# Altium integrated library Xilinx XC4000.IntLib: 294 symbols (part 16 of 21)
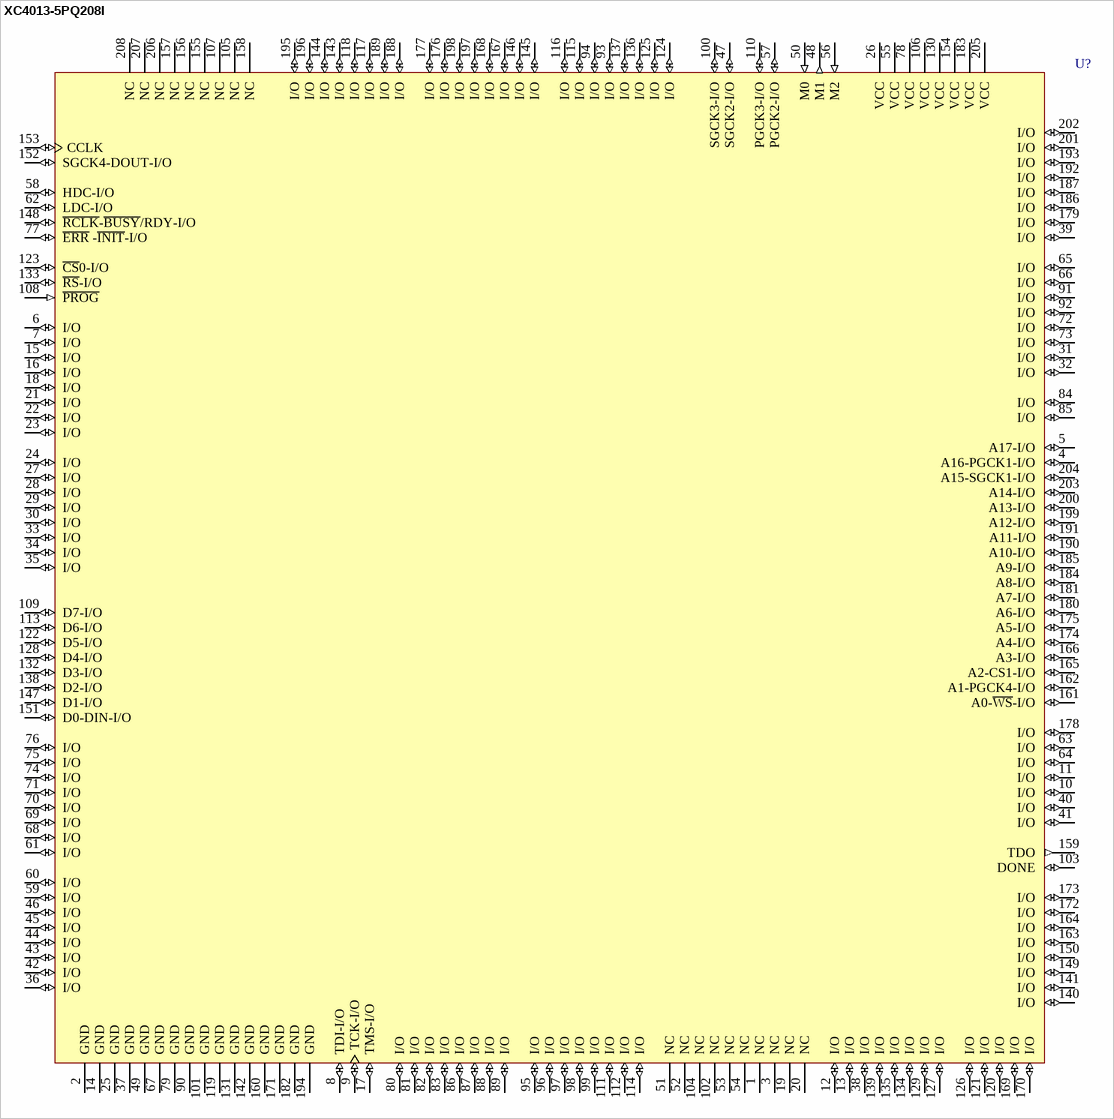
[diagram p244: symbol XC4013-5PQ208I]

## XC4013-5PQ208I
designator U?
Logic Cell Array, with 158 I/O Pins, 208-Pin PQFP, Industrial Grade; ComponentAvailability: Not for New Design; Published: 8-Jun-2000; LatestRevisionDate: 13-Apr-2006; LatestRevisionNote: IPC-7351 Footprint Added.; DatasheetVersion: 1994; PackageVersion: ver1.2, Jun-2004; PackageReference: PQ208; Publisher: Altium Limited; PackageDescription: 208-Pin Plastic Quad Flat Pack (PQ208); Code_JEDEC: MS-029-FA-1; ComponentLink1Description: Manufacturer Link; ComponentLink1URL: http://www.xilinx.com/; ComponentLink2Description: Discontinuation Notice; ComponentLink2URL: http://direct.xilinx.com/bvdocs/notifications/pdn2002-03.pdf
footprint PQ208_N (Shrink QFP, 208-Leads, Body 28x28mm, Pitch 0.5mm, IPC Medium Density)
footprint PQ208_L (Shrink QFP, 208-Leads, Body 28x28mm, Pitch 0.5mm, IPC High Density)
footprint PQ208_M (Shrink QFP, 208-Leads, Body 28x28mm, Pitch 0.5mm, IPC Low Density)
3D model XC4013-PQ208 (208-Pin Plastic Quad Flat Pack (PQ208))
pins: 1 NC, 2 GND (power), 3 NC, 4 A16-PGCK1-I/O (io), 5 A17-I/O (io), 6 I/O (io), 7 I/O (io), 8 TDI-I/O (io), 9 TCK-I/O (io), 10 I/O (io), 11 I/O (io), 12 I/O (io), 13 I/O (io), 14 GND (power), 15 I/O (io), 16 I/O (io), 17 TMS-I/O (io), 18 I/O (io), 19 NC, 20 NC, 21 I/O (io), 22 I/O (io), 23 I/O (io), 24 I/O (io), 25 GND (power), 26 VCC (power), 27 I/O (io), 28 I/O (io), 29 I/O (io), 30 I/O (io), 31 I/O (io), 32 I/O (io), 33 I/O (io), 34 I/O (io), 35 I/O (io), 36 I/O (io), 37 GND (power), 38 I/O (io), 39 I/O (io), 40 I/O (io), 41 I/O (io), 42 I/O (io), 43 I/O (io), 44 I/O (io), 45 I/O (io), 46 I/O (io), 47 SGCK2-I/O (io), 48 M1 (out), 49 GND (power), 50 M0 (in), 51 NC, 52 NC, 53 NC, 54 NC, 55 VCC (power), 56 M2 (in), 57 PGCK2-I/O (io), 58 HDC-I/O (io), 59 I/O (io), 60 I/O (io), 61 I/O (io), 62 LDC-I/O (io), 63 I/O (io), 64 I/O (io), 65 I/O (io), 66 I/O (io), 67 GND (power), 68 I/O (io), 69 I/O (io), 70 I/O (io), 71 I/O (io), 72 I/O (io), 73 I/O (io), 74 I/O (io), 75 I/O (io), 76 I/O (io), 77 ~{ERR} -~{INIT}-I/O (io), 78 VCC (power), 79 GND (power), 80 I/O (io), 81 I/O (io), 82 I/O (io), 83 I/O (io), 84 I/O (io), 85 I/O (io), 86 I/O (io), 87 I/O (io), 88 I/O (io), 89 I/O (io), 90 GND (power), 91 I/O (io), 92 I/O (io), 93 I/O (io), 94 I/O (io), 95 I/O (io), 96 I/O (io), 97 I/O (io), 98 I/O (io), 99 I/O (io), 100 SGCK3-I/O (io), 101 GND (power), 102 NC, 103 DONE (io), 104 NC, 105 NC, 106 VCC (power), 107 NC, 108 ~{PROG} (in), 109 D7-I/O (io), 110 PGCK3-I/O (io), 111 I/O (io), 112 I/O (io), 113 D6-I/O (io), 114 I/O (io), 115 I/O (io), 116 I/O (io), 117 I/O (io), 118 I/O (io), 119 GND (power), 120 I/O (io), 121 I/O (io), 122 D5-I/O (io), 123 ~{CS}0-I/O (io), 124 I/O (io), 125 I/O (io), 126 I/O (io), 127 I/O (io), 128 D4-I/O (io), 129 I/O (io), 130 VCC (power), 131 GND (power), 132 D3-I/O (io), 133 ~{RS}-I/O (io), 134 I/O (io), 135 I/O (io), 136 I/O (io), 137 I/O (io), 138 D2-I/O (io), 139 I/O (io), 140 I/O (io), 141 I/O (io), 142 GND (power), 143 I/O (io), 144 I/O (io), 145 I/O (io), 146 I/O (io), 147 D1-I/O (io), 148 ~{RCLK}-~{BUSY}/RDY-I/O (io), 149 I/O (io), 150 I/O (io), 151 D0-DIN-I/O (io), 152 SGCK4-DOUT-I/O (io), 153 CCLK (io), 154 VCC (power), 155 NC, 156 NC, 157 NC, 158 NC, 159 TDO (out), 160 GND (power), 161 A0-~{WS}-I/O (io), 162 A1-PGCK4-I/O (io), 163 I/O (io), 164 I/O (io), 165 A2-CS1-I/O (io), 166 A3-I/O (io), 167 I/O (io), 168 I/O (io), 169 I/O (io), 170 I/O (io), 171 GND (power), 172 I/O (io), 173 I/O (io), 174 A4-I/O (io), 175 A5-I/O (io), 176 I/O (io), 177 I/O (io), 178 I/O (io), 179 I/O (io), 180 A6-I/O (io), 181 A7-I/O (io), 182 GND (power), 183 VCC (power), 184 A8-I/O (io), 185 A9-I/O (io), 186 I/O (io), 187 I/O (io), 188 I/O (io), 189 I/O (io), 190 A10-I/O (io), 191 A11-I/O (io), 192 I/O (io), 193 I/O (io), 194 GND (power), 195 I/O (io), 196 I/O (io), 197 I/O (io), 198 I/O (io), 199 A12-I/O (io), 200 A13-I/O (io), 201 I/O (io), 202 I/O (io), 203 A14-I/O (io), 204 A15-SGCK1-I/O (io), 205 VCC (power), 206 NC, 207 NC, 208 NC

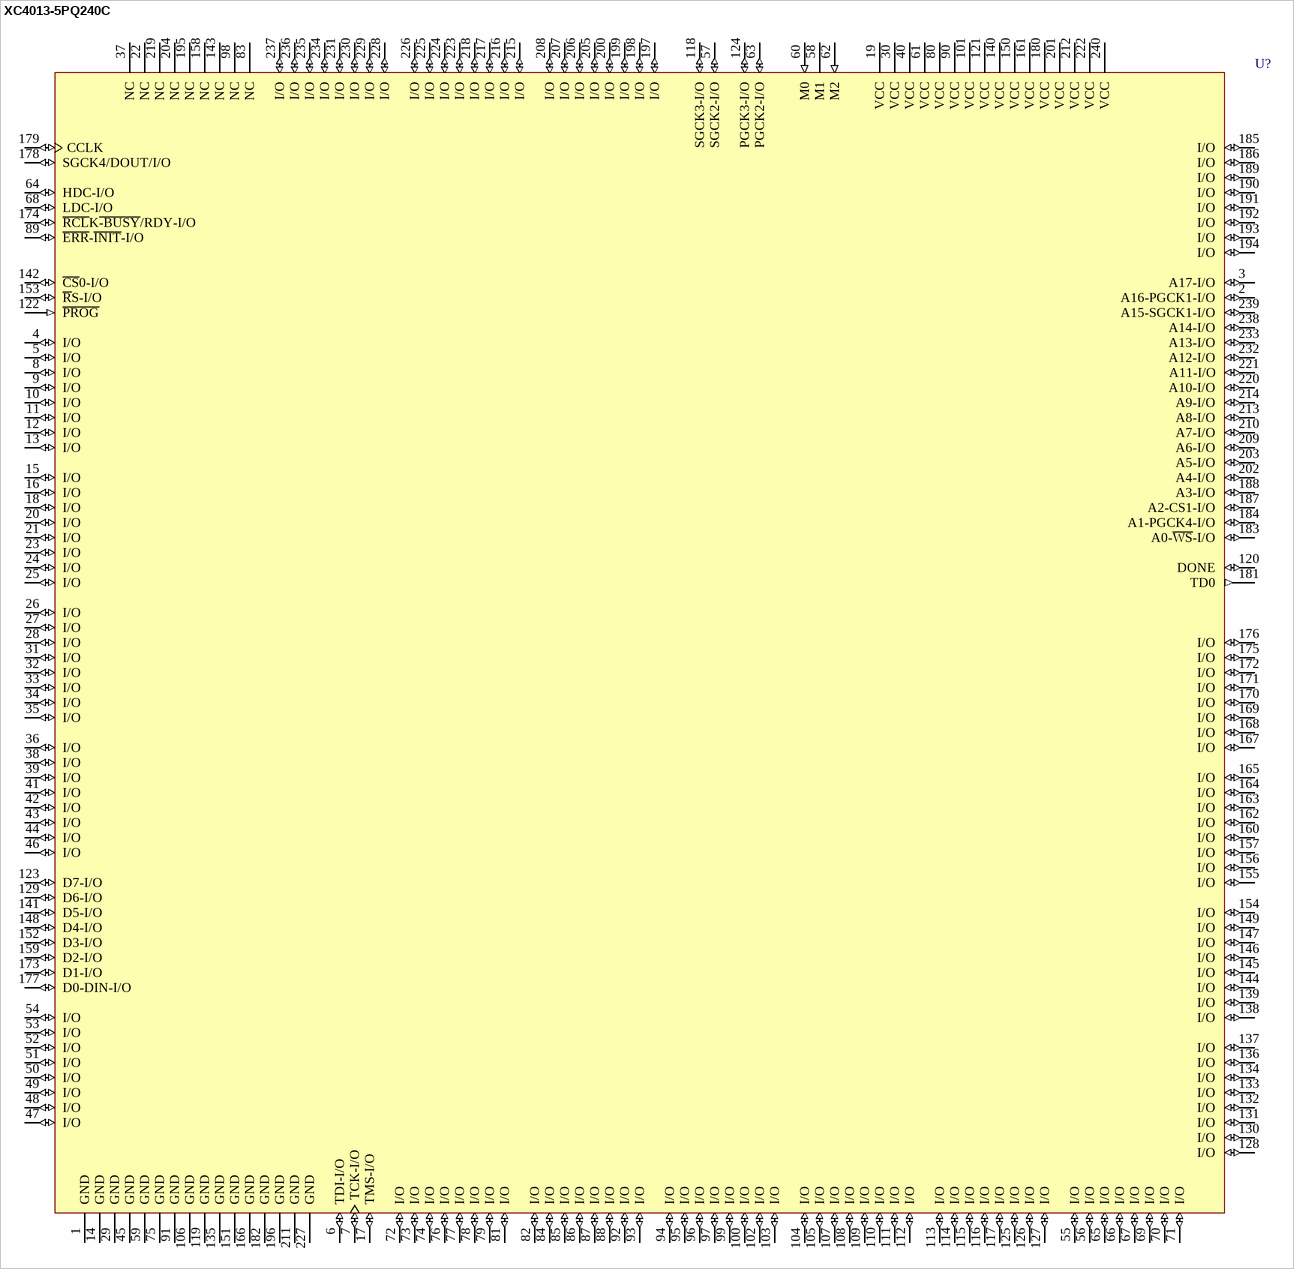
[diagram p164: symbol XC4013-5PQ240C]

## XC4013-5PQ240C
designator U?
Logic Cell Array, with 192 I/O Pins, 240-Pin PQFP, Commercial Grade; ComponentAvailability: Not for New Design; Published: 8-Jun-2000; LatestRevisionDate: 13-Apr-2006; LatestRevisionNote: IPC-7351 Footprint Added.; DatasheetVersion: 1994; PackageVersion: ver1.2, Jun-2004; PackageReference: PQ240; Publisher: Altium Limited; PackageDescription: 240-Pin Plastic Quad Flat Pack (PQ240); Code_JEDEC: MO-143-GA; ComponentLink1Description: Manufacturer Link; ComponentLink1URL: http://www.xilinx.com/; ComponentLink2Description: Discontinuation Notice; ComponentLink2URL: http://direct.xilinx.com/bvdocs/notifications/pdn2002-03.pdf
footprint PQ240_N (Shrink QFP, 240-Leads, Body 32x32mm, Pitch 0.5mm, IPC Medium Density)
footprint PQ240_L (Shrink QFP, 240-Leads, Body 32x32mm, Pitch 0.5mm, IPC High Density)
footprint PQ240_M (Shrink QFP, 240-Leads, Body 32x32mm, Pitch 0.5mm, IPC Low Density)
3D model XC4013-PQ240 (240-Pin Plastic Quad Flat Pack (PQ240))
pins: 1 GND (power), 2 A16-PGCK1-I/O (io), 3 A17-I/O (io), 4 I/O (io), 5 I/O (io), 6 TDI-I/O (io), 7 TCK-I/O (io), 8 I/O (io), 9 I/O (io), 10 I/O (io), 11 I/O (io), 12 I/O (io), 13 I/O (io), 14 GND (power), 15 I/O (io), 16 I/O (io), 17 TMS-I/O (io), 18 I/O (io), 19 VCC (power), 20 I/O (io), 21 I/O (io), 22 NC, 23 I/O (io), 24 I/O (io), 25 I/O (io), 26 I/O (io), 27 I/O (io), 28 I/O (io), 29 GND (power), 30 VCC (power), 31 I/O (io), 32 I/O (io), 33 I/O (io), 34 I/O (io), 35 I/O (io), 36 I/O (io), 37 NC, 38 I/O (io), 39 I/O (io), 40 VCC (power), 41 I/O (io), 42 I/O (io), 43 I/O (io), 44 I/O (io), 45 GND (power), 46 I/O (io), 47 I/O (io), 48 I/O (io), 49 I/O (io), 50 I/O (io), 51 I/O (io), 52 I/O (io), 53 I/O (io), 54 I/O (io), 55 I/O (io), 56 I/O (io), 57 SGCK2-I/O (io), 58 M1 (hiz), 59 GND (power), 60 M0 (in), 61 VCC (power), 62 M2 (in), 63 PGCK2-I/O (io), 64 HDC-I/O (io), 65 I/O (io), 66 I/O (io), 67 I/O (io), 68 LDC-I/O (io), 69 I/O (io), 70 I/O (io), 71 I/O (io), 72 I/O (io), 73 I/O (io), 74 I/O (io), 75 GND (power), 76 I/O (io), 77 I/O (io), 78 I/O (io), 79 I/O (io), 80 VCC (power), 81 I/O (io), 82 I/O (io), 83 NC, 84 I/O (io), 85 I/O (io), 86 I/O (io), 87 I/O (io), 88 I/O (io), 89 ~{ERR}-~{INIT}-I/O (io), 90 VCC (power), 91 GND (power), 92 I/O (io), 93 I/O (io), 94 I/O (io), 95 I/O (io), 96 I/O (io), 97 I/O (io), 98 NC, 99 I/O (io), 100 I/O (io), 101 VCC (power), 102 I/O (io), 103 I/O (io), 104 I/O (io), 105 I/O (io), 106 GND (power), 107 I/O (io), 108 I/O (io), 109 I/O (io), 110 I/O (io), 111 I/O (io), 112 I/O (io), 113 I/O (io), 114 I/O (io), 115 I/O (io), 116 I/O (io), 117 I/O (io), 118 SGCK3-I/O (io), 119 GND (power), 120 DONE (io), 121 VCC (power), 122 ~{PROG} (in), 123 D7-I/O (io), 124 PGCK3-I/O (io), 125 I/O (io), 126 I/O (io), 127 I/O (io), 128 I/O (io), 129 D6-I/O (io), 130 I/O (io), 131 I/O (io), 132 I/O (io), 133 I/O (io), 134 I/O (io), 135 GND (power), 136 I/O (io), 137 I/O (io), 138 I/O (io), 139 I/O (io), 140 VCC (power), 141 D5-I/O (io), 142 ~{CS}0-I/O (io), 143 NC, 144 I/O (io), 145 I/O (io), 146 I/O (io), 147 I/O (io), 148 D4-I/O (io), 149 I/O (io), 150 VCC (power), 151 GND (power), 152 D3-I/O (io), 153 ~{R}S-I/O (io), 154 I/O (io), 155 I/O (io), 156 I/O (io), 157 I/O (io), 158 NC, 159 D2-I/O (io), 160 I/O (io), 161 VCC (power), 162 I/O (io), 163 I/O (io), 164 I/O (io), 165 I/O (io), 166 GND (power), 167 I/O (io), 168 I/O (io), 169 I/O (io), 170 I/O (io), 171 I/O (io), 172 I/O (io), 173 D1-I/O (io), 174 ~{RCL}K~{-BUSY}/RDY-I/O (io), 175 I/O (io), 176 I/O (io), 177 D0-DIN-I/O (io), 178 SGCK4/DOUT/I/O (io), 179 CCLK (io), 180 VCC (power), 181 TD0 (out), 182 GND (power), 183 A0-~{WS}-I/O (io), 184 A1-PGCK4-I/O (io), 185 I/O (io), 186 I/O (io), 187 A2-CS1-I/O (io), 188 A3-I/O (io), 189 I/O (io), 190 I/O (io), 191 I/O (io), 192 I/O (io), 193 I/O (io), 194 I/O (io), 195 NC, 196 GND (power), 197 I/O (io), 198 I/O (io), 199 I/O (io), 200 I/O (io), 201 VCC (power), 202 A4-I/O (io), 203 A5-I/O (io), 204 NC, 205 I/O (io), 206 I/O (io), 207 I/O (io), 208 I/O (io), 209 A6-I/O (io), 210 A7-I/O (io), 211 GND (power), 212 VCC (power), 213 A8-I/O (io), 214 A9-I/O (io), 215 I/O (io), 216 I/O (io), 217 I/O (io), 218 I/O (io), 219 NC, 220 A10-I/O (io), 221 A11-I/O (io), 222 VCC (power), 223 I/O (io), 224 I/O (io), 225 I/O (io), 226 I/O (io), 227 GND (power), 228 I/O (io), 229 I/O (io), 230 I/O (io), 231 I/O (io), 232 A12-I/O (io), 233 A13-I/O (io), 234 I/O (io), 235 I/O (io), 236 I/O (io), 237 I/O (io), 238 A14-I/O (io), 239 A15-SGCK1-I/O (io), 240 VCC (power)

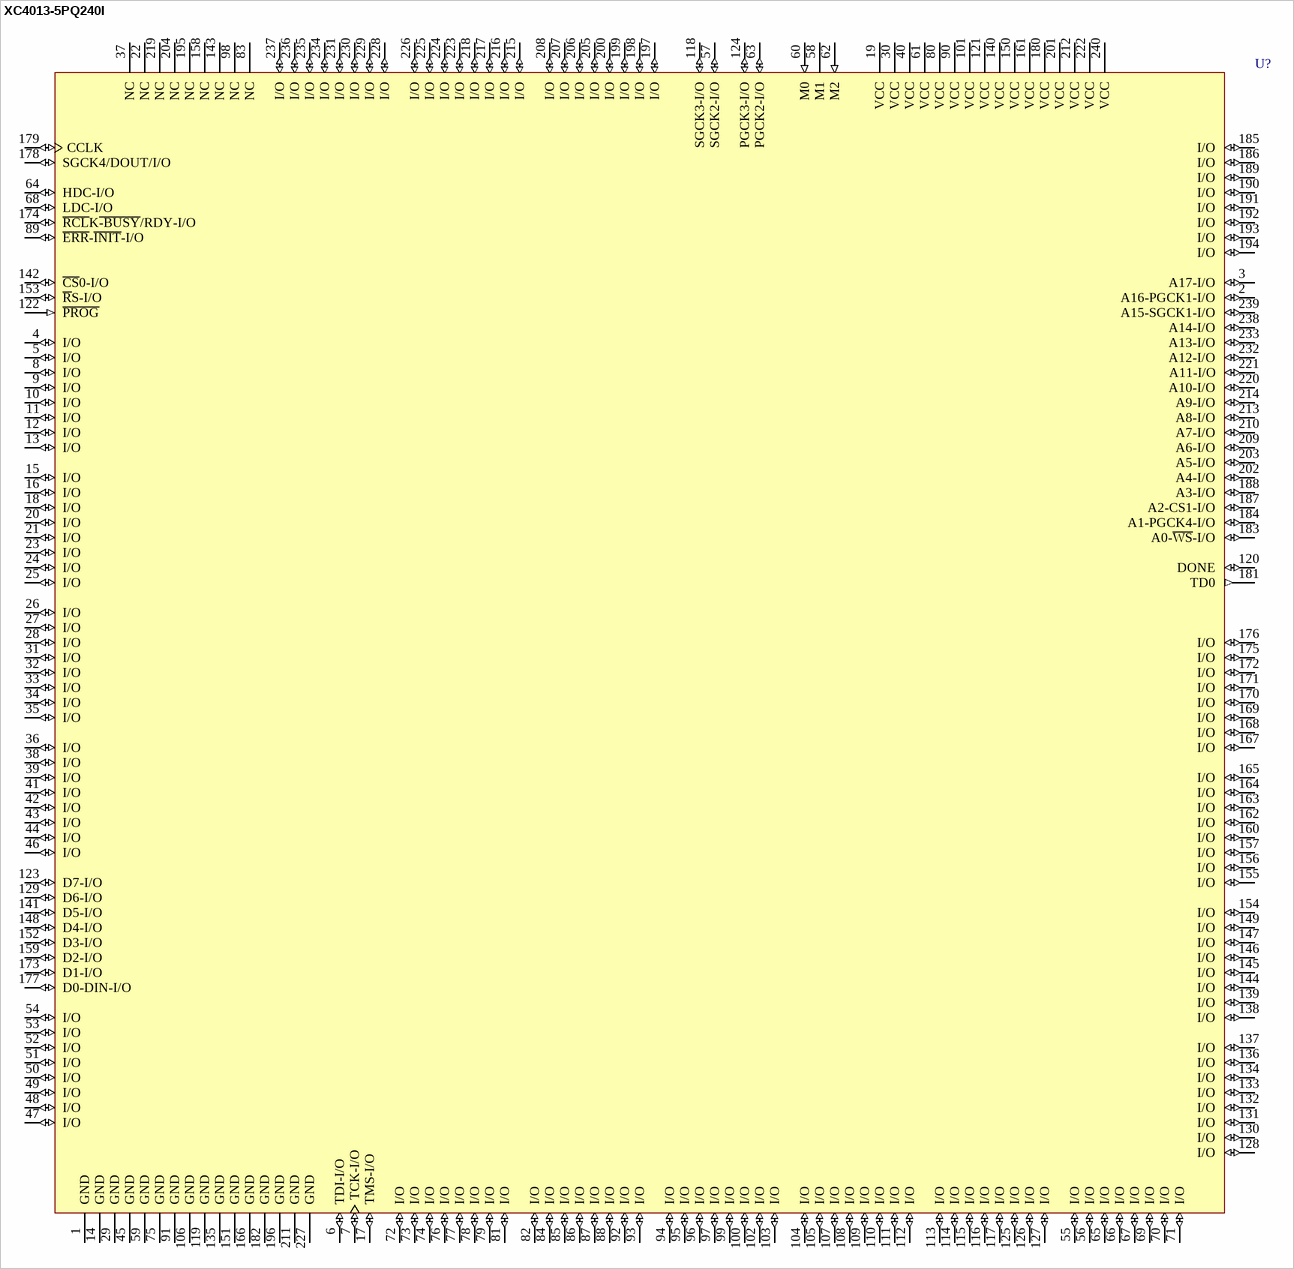
[diagram p165: symbol XC4013-5PQ240I]

## XC4013-5PQ240I
designator U?
Logic Cell Array, with 192 I/O Pins, 240-Pin PQFP, Industrial Grade; ComponentAvailability: Not for New Design; Published: 8-Jun-2000; LatestRevisionDate: 13-Apr-2006; LatestRevisionNote: IPC-7351 Footprint Added.; DatasheetVersion: 1994; PackageVersion: ver1.2, Jun-2004; PackageReference: PQ240; Publisher: Altium Limited; PackageDescription: 240-Pin Plastic Quad Flat Pack (PQ240); Code_JEDEC: MO-143-GA; ComponentLink1Description: Manufacturer Link; ComponentLink1URL: http://www.xilinx.com/; ComponentLink2Description: Discontinuation Notice; ComponentLink2URL: http://direct.xilinx.com/bvdocs/notifications/pdn2002-03.pdf
footprint PQ240_N (Shrink QFP, 240-Leads, Body 32x32mm, Pitch 0.5mm, IPC Medium Density)
footprint PQ240_L (Shrink QFP, 240-Leads, Body 32x32mm, Pitch 0.5mm, IPC High Density)
footprint PQ240_M (Shrink QFP, 240-Leads, Body 32x32mm, Pitch 0.5mm, IPC Low Density)
3D model XC4013-PQ240 (240-Pin Plastic Quad Flat Pack (PQ240))
pins: 1 GND (power), 2 A16-PGCK1-I/O (io), 3 A17-I/O (io), 4 I/O (io), 5 I/O (io), 6 TDI-I/O (io), 7 TCK-I/O (io), 8 I/O (io), 9 I/O (io), 10 I/O (io), 11 I/O (io), 12 I/O (io), 13 I/O (io), 14 GND (power), 15 I/O (io), 16 I/O (io), 17 TMS-I/O (io), 18 I/O (io), 19 VCC (power), 20 I/O (io), 21 I/O (io), 22 NC, 23 I/O (io), 24 I/O (io), 25 I/O (io), 26 I/O (io), 27 I/O (io), 28 I/O (io), 29 GND (power), 30 VCC (power), 31 I/O (io), 32 I/O (io), 33 I/O (io), 34 I/O (io), 35 I/O (io), 36 I/O (io), 37 NC, 38 I/O (io), 39 I/O (io), 40 VCC (power), 41 I/O (io), 42 I/O (io), 43 I/O (io), 44 I/O (io), 45 GND (power), 46 I/O (io), 47 I/O (io), 48 I/O (io), 49 I/O (io), 50 I/O (io), 51 I/O (io), 52 I/O (io), 53 I/O (io), 54 I/O (io), 55 I/O (io), 56 I/O (io), 57 SGCK2-I/O (io), 58 M1 (hiz), 59 GND (power), 60 M0 (in), 61 VCC (power), 62 M2 (in), 63 PGCK2-I/O (io), 64 HDC-I/O (io), 65 I/O (io), 66 I/O (io), 67 I/O (io), 68 LDC-I/O (io), 69 I/O (io), 70 I/O (io), 71 I/O (io), 72 I/O (io), 73 I/O (io), 74 I/O (io), 75 GND (power), 76 I/O (io), 77 I/O (io), 78 I/O (io), 79 I/O (io), 80 VCC (power), 81 I/O (io), 82 I/O (io), 83 NC, 84 I/O (io), 85 I/O (io), 86 I/O (io), 87 I/O (io), 88 I/O (io), 89 ~{ERR}-~{INIT}-I/O (io), 90 VCC (power), 91 GND (power), 92 I/O (io), 93 I/O (io), 94 I/O (io), 95 I/O (io), 96 I/O (io), 97 I/O (io), 98 NC, 99 I/O (io), 100 I/O (io), 101 VCC (power), 102 I/O (io), 103 I/O (io), 104 I/O (io), 105 I/O (io), 106 GND (power), 107 I/O (io), 108 I/O (io), 109 I/O (io), 110 I/O (io), 111 I/O (io), 112 I/O (io), 113 I/O (io), 114 I/O (io), 115 I/O (io), 116 I/O (io), 117 I/O (io), 118 SGCK3-I/O (io), 119 GND (power), 120 DONE (io), 121 VCC (power), 122 ~{PROG} (in), 123 D7-I/O (io), 124 PGCK3-I/O (io), 125 I/O (io), 126 I/O (io), 127 I/O (io), 128 I/O (io), 129 D6-I/O (io), 130 I/O (io), 131 I/O (io), 132 I/O (io), 133 I/O (io), 134 I/O (io), 135 GND (power), 136 I/O (io), 137 I/O (io), 138 I/O (io), 139 I/O (io), 140 VCC (power), 141 D5-I/O (io), 142 ~{CS}0-I/O (io), 143 NC, 144 I/O (io), 145 I/O (io), 146 I/O (io), 147 I/O (io), 148 D4-I/O (io), 149 I/O (io), 150 VCC (power), 151 GND (power), 152 D3-I/O (io), 153 ~{R}S-I/O (io), 154 I/O (io), 155 I/O (io), 156 I/O (io), 157 I/O (io), 158 NC, 159 D2-I/O (io), 160 I/O (io), 161 VCC (power), 162 I/O (io), 163 I/O (io), 164 I/O (io), 165 I/O (io), 166 GND (power), 167 I/O (io), 168 I/O (io), 169 I/O (io), 170 I/O (io), 171 I/O (io), 172 I/O (io), 173 D1-I/O (io), 174 ~{RCL}K~{-BUSY}/RDY-I/O (io), 175 I/O (io), 176 I/O (io), 177 D0-DIN-I/O (io), 178 SGCK4/DOUT/I/O (io), 179 CCLK (io), 180 VCC (power), 181 TD0 (out), 182 GND (power), 183 A0-~{WS}-I/O (io), 184 A1-PGCK4-I/O (io), 185 I/O (io), 186 I/O (io), 187 A2-CS1-I/O (io), 188 A3-I/O (io), 189 I/O (io), 190 I/O (io), 191 I/O (io), 192 I/O (io), 193 I/O (io), 194 I/O (io), 195 NC, 196 GND (power), 197 I/O (io), 198 I/O (io), 199 I/O (io), 200 I/O (io), 201 VCC (power), 202 A4-I/O (io), 203 A5-I/O (io), 204 NC, 205 I/O (io), 206 I/O (io), 207 I/O (io), 208 I/O (io), 209 A6-I/O (io), 210 A7-I/O (io), 211 GND (power), 212 VCC (power), 213 A8-I/O (io), 214 A9-I/O (io), 215 I/O (io), 216 I/O (io), 217 I/O (io), 218 I/O (io), 219 NC, 220 A10-I/O (io), 221 A11-I/O (io), 222 VCC (power), 223 I/O (io), 224 I/O (io), 225 I/O (io), 226 I/O (io), 227 GND (power), 228 I/O (io), 229 I/O (io), 230 I/O (io), 231 I/O (io), 232 A12-I/O (io), 233 A13-I/O (io), 234 I/O (io), 235 I/O (io), 236 I/O (io), 237 I/O (io), 238 A14-I/O (io), 239 A15-SGCK1-I/O (io), 240 VCC (power)

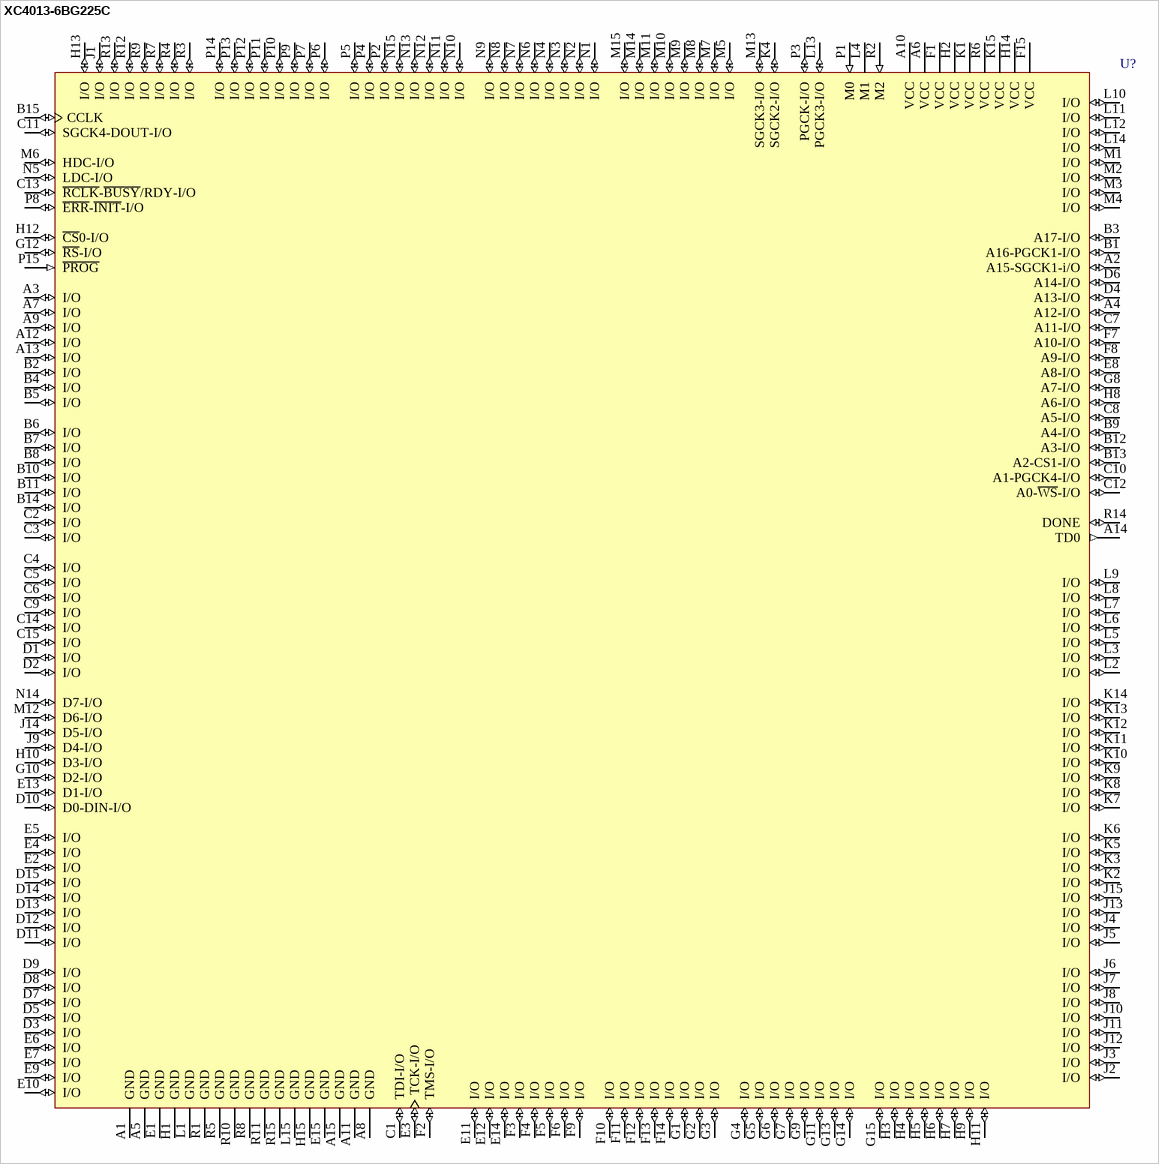
[diagram p166: symbol XC4013-6BG225C]

## XC4013-6BG225C
designator U?
Logic Cell Array, with 192 I/O Pins, 225-Pin BGA, Commercial Grade; ComponentAvailability: Not for New Design; Published: 8-Jun-2000; LatestRevisionDate: 13-Apr-2006; LatestRevisionNote: IPC-7351 Footprint Added.; DatasheetVersion: 1994; PackageVersion: ver1.1, Apr-2001; PackageReference: BG225; Publisher: Altium Limited; PackageDescription: 225-Ball Plastic Ball Grid Array (BG225); ComponentLink1Description: Manufacturer Link; ComponentLink1URL: http://www.xilinx.com/; ComponentLink2Description: Datasheet; ComponentLink2URL: http://direct.xilinx.com/bvdocs/publications/ds015.pdf
footprint BG225 (BGA, 225-Leads, Body 27x27mm, Pitch 1.5mm)
3D model XC4013-BG225 (225-Ball Plastic Ball Grid Array (BG225))
pins: A1 GND (power), A2 A15-SGCK1-i/O (io), A3 I/O (io), A4 A12-I/O (io), A5 GND (power), A6 VCC (power), A7 I/O (io), A8 GND (power), A9 I/O (io), A10 VCC (power), A11 GND (power), A12 I/O (io), A13 I/O (io), A14 TD0 (out), A15 GND (power), B1 A16-PGCK1-I/O (io), B2 I/O (io), B3 A17-I/O (io), B4 I/O (io), B5 I/O (io), B6 I/O (io), B7 I/O (io), B8 I/O (io), B9 A4-I/O (io), B10 I/O (io), B11 I/O (io), B12 A3-I/O (io), B13 A2-CS1-I/O (io), B14 I/O (io), B15 CCLK (io), C1 TDI-I/O (io), C2 I/O (io), C3 I/O (io), C4 I/O (io), C5 I/O (io), C6 I/O (io), C7 A11-I/O (io), C8 A5-I/O (io), C9 I/O (io), C10 A1-PGCK4-I/O (io), C11 SGCK4-DOUT-I/O (io), C12 A0-~{WS}-I/O (io), C13 ~{RCLK}-~{BUSY}/RDY-I/O (io), C14 I/O (io), C15 I/O (io), D1 I/O (io), D2 I/O (io), D3 I/O (io), D4 A13-I/O (io), D5 I/O (io), D6 A14-I/O (io), D7 I/O (io), D8 I/O (io), D9 I/O (io), D10 D0-DIN-I/O (io), D11 I/O (io), D12 I/O (io), D13 I/O (io), D14 I/O (io), D15 I/O (io), E1 GND (power), E2 I/O (io), E3 TCK-I/O (io), E4 I/O (io), E5 I/O (io), E6 I/O (io), E7 I/O (io), E8 A8-I/O (io), E9 I/O (io), E10 I/O (io), E11 I/O (io), E12 I/O (io), E13 D1-I/O (io), E14 I/O (io), E15 GND (power), F1 VCC (power), F2 TMS-I/O (io), F3 I/O (io), F4 I/O (io), F5 I/O (io), F6 I/O (io), F7 A10-I/O (io), F8 A9-I/O (io), F9 I/O (io), F10 I/O (io), F11 I/O (io), F12 I/O (io), F13 I/O (io), F14 I/O (io), F15 VCC (power), G1 I/O (io), G2 I/O (io), G3 I/O (io), G4 I/O (io), G5 I/O (io), G6 I/O (io), G7 I/O (io), G8 A7-I/O (io), G9 I/O (io), G10 D2-I/O (io), G11 I/O (io), G12 ~{RS}-I/O (io), G13 I/O (io), G14 I/O (io), G15 I/O (io), H1 GND (power), H2 VCC (power), H3 I/O (io), H4 I/O (io), H5 I/O (io), H6 I/O (io), H7 I/O (io), H8 A6-I/O (io), H9 I/O (io), H10 D3-I/O (io), H11 I/O (io), H12 ~{CS}0-I/O (io), H13 I/O (io), H14 VCC (power), H15 GND (power), J1 I/O (io), J2 I/O (io), J3 I/O (io), J4 I/O (io), J5 I/O (io), J6 I/O (io), J7 I/O (io), J8 I/O (io), J9 D4-I/O (io), J10 I/O (io), J11 I/O (io), J12 I/O (io), J13 I/O (io), J14 D5-I/O (io), J15 I/O (io), K1 VCC (power), K2 I/O (io), K3 I/O (io), K4 SGCK2-I/O (io), K5 I/O (io), K6 I/O (io), K7 I/O (io), K8 I/O (io), K9 I/O (io), K10 I/O (io), K11 I/O (io), K12 I/O (io), K13 I/O (io), K14 I/O (io), K15 VCC (power), L1 GND (power), L2 I/O (io), L3 I/O (io), L4 M1 (hiz), L5 I/O (io), L6 I/O (io), L7 I/O (io), L8 I/O (io), L9 I/O (io), L10 I/O (io), L11 I/O (io), L12 I/O (io), L13 PGCK3-I/O (io), L14 I/O (io), L15 GND (power), M1 I/O (io), M2 I/O (io), M3 I/O (io), M4 I/O (io), M5 I/O (io), M6 HDC-I/O (io), M7 I/O (io), M8 I/O (io), M9 I/O (io), M10 I/O (io), M11 I/O (io), M12 D6-I/O (io), M13 SGCK3-I/O (io), M14 I/O (io), M15 I/O (io), N1 I/O (io), N2 I/O (io), N3 I/O (io), N4 I/O (io), N5 LDC-I/O (io), N6 I/O (io), N7 I/O (io), N8 I/O (io), N9 I/O (io), N10 I/O (io), N11 I/O (io), N12 I/O (io), N13 I/O (io), N14 D7-I/O (io), N15 I/O (io), P1 M0 (in), P2 I/O (io), P3 PGCK-I/O (io), P4 I/O (io), P5 I/O (io), P6 I/O (io), P7 I/O (io), P8 ~{ERR}-~{INIT}-I/O (io), P9 I/O (io), P10 I/O (io), P11 I/O (io), P12 I/O (io), P13 I/O (io), P14 I/O (io), P15 ~{PROG} (in), R1 GND (power), R2 M2 (in), R3 I/O (io), R4 I/O (io), R5 GND (power), R6 VCC (power), R7 I/O (io), R8 GND (power), R9 I/O (io), R10 GND (power), R11 GND (power), R12 I/O (io), R13 I/O (io), R14 DONE (io), R15 GND (power)

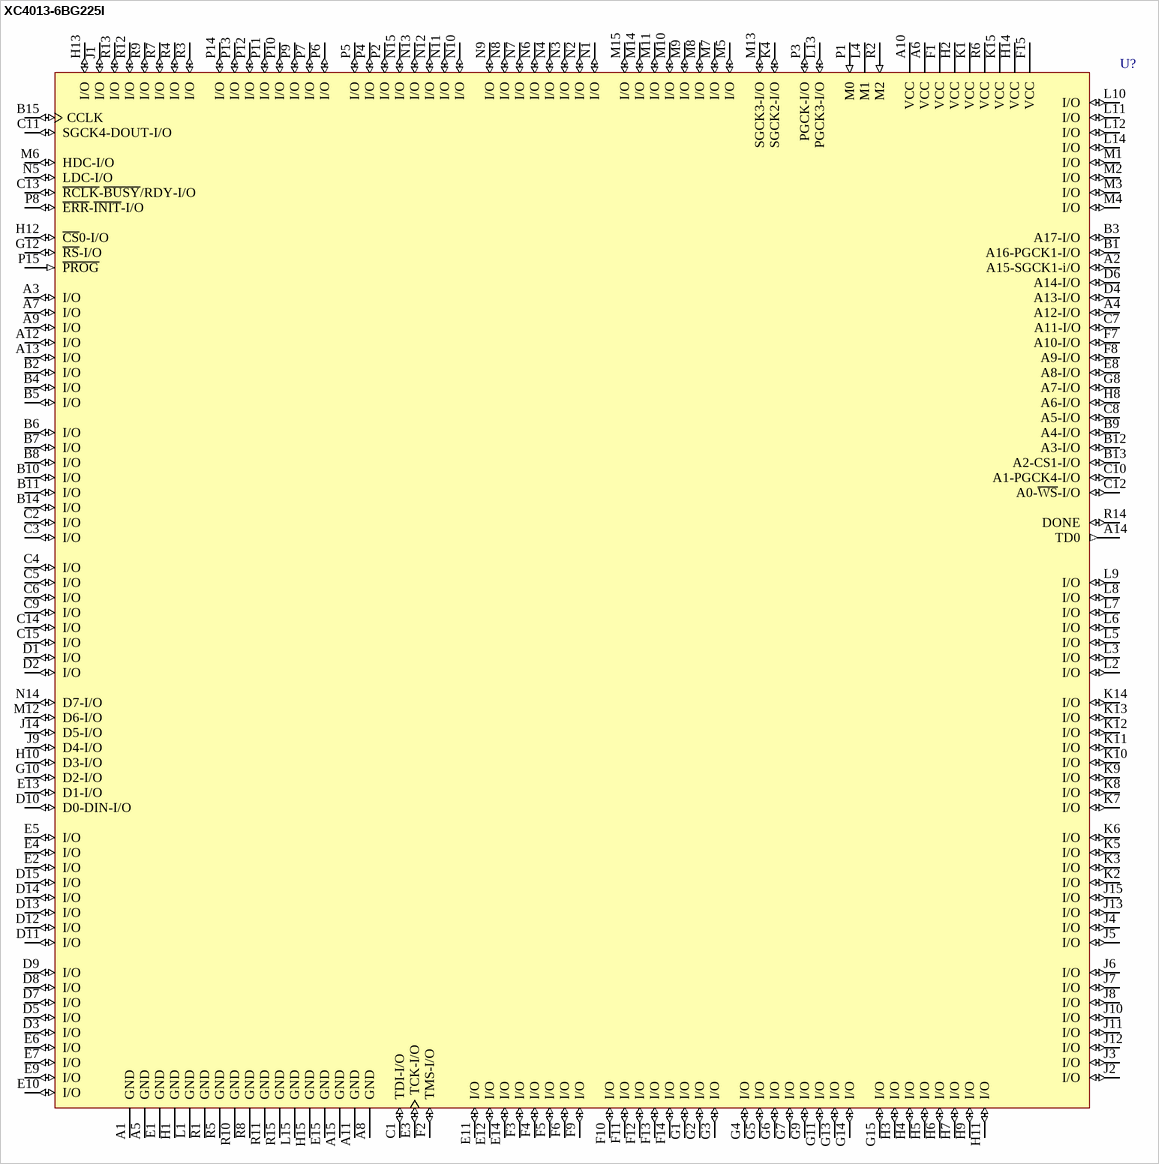
[diagram p167: symbol XC4013-6BG225I]

## XC4013-6BG225I
designator U?
Logic Cell Array, with 192 I/O Pins, 225-Pin BGA, Industrial Grade; ComponentAvailability: Not for New Design; Published: 8-Jun-2000; LatestRevisionDate: 13-Apr-2006; LatestRevisionNote: IPC-7351 Footprint Added.; DatasheetVersion: 1994; PackageVersion: ver1.1, Apr-2001; PackageReference: BG225; Publisher: Altium Limited; PackageDescription: 225-Ball Plastic Ball Grid Array (BG225); ComponentLink1Description: Manufacturer Link; ComponentLink1URL: http://www.xilinx.com/; ComponentLink2Description: Datasheet; ComponentLink2URL: http://direct.xilinx.com/bvdocs/publications/ds015.pdf
footprint BG225 (BGA, 225-Leads, Body 27x27mm, Pitch 1.5mm)
3D model XC4013-BG225 (225-Ball Plastic Ball Grid Array (BG225))
pins: A1 GND (power), A2 A15-SGCK1-i/O (io), A3 I/O (io), A4 A12-I/O (io), A5 GND (power), A6 VCC (power), A7 I/O (io), A8 GND (power), A9 I/O (io), A10 VCC (power), A11 GND (power), A12 I/O (io), A13 I/O (io), A14 TD0 (out), A15 GND (power), B1 A16-PGCK1-I/O (io), B2 I/O (io), B3 A17-I/O (io), B4 I/O (io), B5 I/O (io), B6 I/O (io), B7 I/O (io), B8 I/O (io), B9 A4-I/O (io), B10 I/O (io), B11 I/O (io), B12 A3-I/O (io), B13 A2-CS1-I/O (io), B14 I/O (io), B15 CCLK (io), C1 TDI-I/O (io), C2 I/O (io), C3 I/O (io), C4 I/O (io), C5 I/O (io), C6 I/O (io), C7 A11-I/O (io), C8 A5-I/O (io), C9 I/O (io), C10 A1-PGCK4-I/O (io), C11 SGCK4-DOUT-I/O (io), C12 A0-~{WS}-I/O (io), C13 ~{RCLK}-~{BUSY}/RDY-I/O (io), C14 I/O (io), C15 I/O (io), D1 I/O (io), D2 I/O (io), D3 I/O (io), D4 A13-I/O (io), D5 I/O (io), D6 A14-I/O (io), D7 I/O (io), D8 I/O (io), D9 I/O (io), D10 D0-DIN-I/O (io), D11 I/O (io), D12 I/O (io), D13 I/O (io), D14 I/O (io), D15 I/O (io), E1 GND (power), E2 I/O (io), E3 TCK-I/O (io), E4 I/O (io), E5 I/O (io), E6 I/O (io), E7 I/O (io), E8 A8-I/O (io), E9 I/O (io), E10 I/O (io), E11 I/O (io), E12 I/O (io), E13 D1-I/O (io), E14 I/O (io), E15 GND (power), F1 VCC (power), F2 TMS-I/O (io), F3 I/O (io), F4 I/O (io), F5 I/O (io), F6 I/O (io), F7 A10-I/O (io), F8 A9-I/O (io), F9 I/O (io), F10 I/O (io), F11 I/O (io), F12 I/O (io), F13 I/O (io), F14 I/O (io), F15 VCC (power), G1 I/O (io), G2 I/O (io), G3 I/O (io), G4 I/O (io), G5 I/O (io), G6 I/O (io), G7 I/O (io), G8 A7-I/O (io), G9 I/O (io), G10 D2-I/O (io), G11 I/O (io), G12 ~{RS}-I/O (io), G13 I/O (io), G14 I/O (io), G15 I/O (io), H1 GND (power), H2 VCC (power), H3 I/O (io), H4 I/O (io), H5 I/O (io), H6 I/O (io), H7 I/O (io), H8 A6-I/O (io), H9 I/O (io), H10 D3-I/O (io), H11 I/O (io), H12 ~{CS}0-I/O (io), H13 I/O (io), H14 VCC (power), H15 GND (power), J1 I/O (io), J2 I/O (io), J3 I/O (io), J4 I/O (io), J5 I/O (io), J6 I/O (io), J7 I/O (io), J8 I/O (io), J9 D4-I/O (io), J10 I/O (io), J11 I/O (io), J12 I/O (io), J13 I/O (io), J14 D5-I/O (io), J15 I/O (io), K1 VCC (power), K2 I/O (io), K3 I/O (io), K4 SGCK2-I/O (io), K5 I/O (io), K6 I/O (io), K7 I/O (io), K8 I/O (io), K9 I/O (io), K10 I/O (io), K11 I/O (io), K12 I/O (io), K13 I/O (io), K14 I/O (io), K15 VCC (power), L1 GND (power), L2 I/O (io), L3 I/O (io), L4 M1 (hiz), L5 I/O (io), L6 I/O (io), L7 I/O (io), L8 I/O (io), L9 I/O (io), L10 I/O (io), L11 I/O (io), L12 I/O (io), L13 PGCK3-I/O (io), L14 I/O (io), L15 GND (power), M1 I/O (io), M2 I/O (io), M3 I/O (io), M4 I/O (io), M5 I/O (io), M6 HDC-I/O (io), M7 I/O (io), M8 I/O (io), M9 I/O (io), M10 I/O (io), M11 I/O (io), M12 D6-I/O (io), M13 SGCK3-I/O (io), M14 I/O (io), M15 I/O (io), N1 I/O (io), N2 I/O (io), N3 I/O (io), N4 I/O (io), N5 LDC-I/O (io), N6 I/O (io), N7 I/O (io), N8 I/O (io), N9 I/O (io), N10 I/O (io), N11 I/O (io), N12 I/O (io), N13 I/O (io), N14 D7-I/O (io), N15 I/O (io), P1 M0 (in), P2 I/O (io), P3 PGCK-I/O (io), P4 I/O (io), P5 I/O (io), P6 I/O (io), P7 I/O (io), P8 ~{ERR}-~{INIT}-I/O (io), P9 I/O (io), P10 I/O (io), P11 I/O (io), P12 I/O (io), P13 I/O (io), P14 I/O (io), P15 ~{PROG} (in), R1 GND (power), R2 M2 (in), R3 I/O (io), R4 I/O (io), R5 GND (power), R6 VCC (power), R7 I/O (io), R8 GND (power), R9 I/O (io), R10 GND (power), R11 GND (power), R12 I/O (io), R13 I/O (io), R14 DONE (io), R15 GND (power)

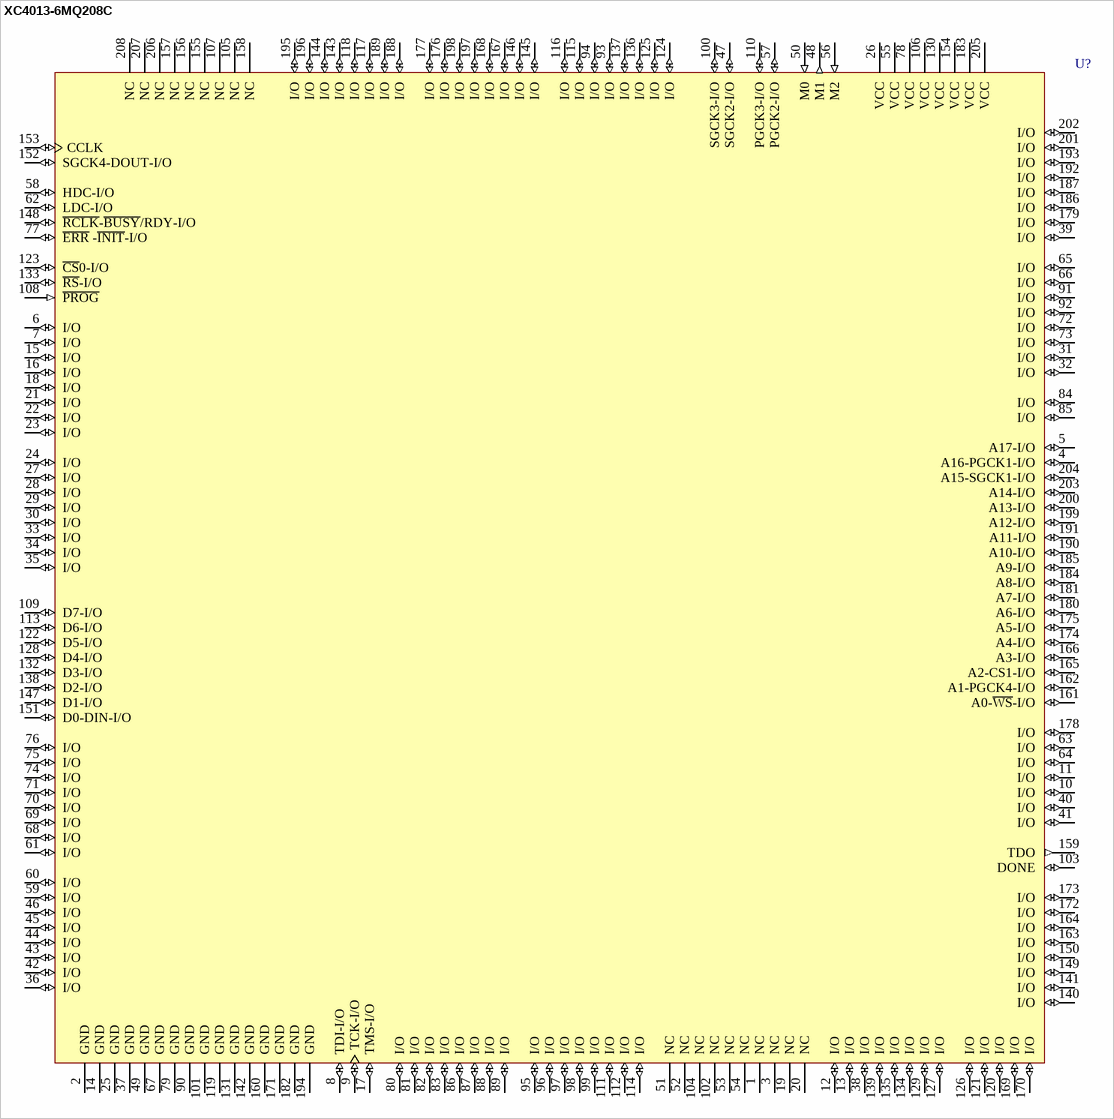
[diagram p168: symbol XC4013-6MQ208C]

## XC4013-6MQ208C
designator U?
Logic Cell Array, with 158 I/O Pins, 208-Pin MQFP, Commercial Grade; ComponentAvailability: Not for New Design; Published: 8-Jun-2000; LatestRevisionDate: 13-Apr-2006; LatestRevisionNote: IPC-7351 Footprint Added.; DatasheetVersion: 1994; PackageVersion: Aug-1996; PackageReference: MQ208; Publisher: Altium Limited; PackageDescription: 208-Pin Metal Quad Flat Pack (MQ208); Code_JEDEC: MO-143-FAI; ComponentLink1Description: Manufacturer Link; ComponentLink1URL: http://www.xilinx.com/; ComponentLink2Description: Datasheet; ComponentLink2URL: http://direct.xilinx.com/bvdocs/publications/ds015.pdf
footprint MQ208_N (Shrink QFP, 208-Leads, Body 27.7x27.7mm, Pitch 0.5mm, IPC Medium Density)
footprint MQ208_L (Shrink QFP, 208-Leads, Body 27.7x27.7mm, Pitch 0.5mm, IPC High Density)
footprint MQ208_M (Shrink QFP, 208-Leads, Body 27.7x27.7mm, Pitch 0.5mm, IPC Low Density)
3D model XC4013-MQ208 (208-Pin Metal Quad Flat Pack (MQ208))
pins: 1 NC, 2 GND (power), 3 NC, 4 A16-PGCK1-I/O (io), 5 A17-I/O (io), 6 I/O (io), 7 I/O (io), 8 TDI-I/O (io), 9 TCK-I/O (io), 10 I/O (io), 11 I/O (io), 12 I/O (io), 13 I/O (io), 14 GND (power), 15 I/O (io), 16 I/O (io), 17 TMS-I/O (io), 18 I/O (io), 19 NC, 20 NC, 21 I/O (io), 22 I/O (io), 23 I/O (io), 24 I/O (io), 25 GND (power), 26 VCC (power), 27 I/O (io), 28 I/O (io), 29 I/O (io), 30 I/O (io), 31 I/O (io), 32 I/O (io), 33 I/O (io), 34 I/O (io), 35 I/O (io), 36 I/O (io), 37 GND (power), 38 I/O (io), 39 I/O (io), 40 I/O (io), 41 I/O (io), 42 I/O (io), 43 I/O (io), 44 I/O (io), 45 I/O (io), 46 I/O (io), 47 SGCK2-I/O (io), 48 M1 (out), 49 GND (power), 50 M0 (in), 51 NC, 52 NC, 53 NC, 54 NC, 55 VCC (power), 56 M2 (in), 57 PGCK2-I/O (io), 58 HDC-I/O (io), 59 I/O (io), 60 I/O (io), 61 I/O (io), 62 LDC-I/O (io), 63 I/O (io), 64 I/O (io), 65 I/O (io), 66 I/O (io), 67 GND (power), 68 I/O (io), 69 I/O (io), 70 I/O (io), 71 I/O (io), 72 I/O (io), 73 I/O (io), 74 I/O (io), 75 I/O (io), 76 I/O (io), 77 ~{ERR} -~{INIT}-I/O (io), 78 VCC (power), 79 GND (power), 80 I/O (io), 81 I/O (io), 82 I/O (io), 83 I/O (io), 84 I/O (io), 85 I/O (io), 86 I/O (io), 87 I/O (io), 88 I/O (io), 89 I/O (io), 90 GND (power), 91 I/O (io), 92 I/O (io), 93 I/O (io), 94 I/O (io), 95 I/O (io), 96 I/O (io), 97 I/O (io), 98 I/O (io), 99 I/O (io), 100 SGCK3-I/O (io), 101 GND (power), 102 NC, 103 DONE (io), 104 NC, 105 NC, 106 VCC (power), 107 NC, 108 ~{PROG} (in), 109 D7-I/O (io), 110 PGCK3-I/O (io), 111 I/O (io), 112 I/O (io), 113 D6-I/O (io), 114 I/O (io), 115 I/O (io), 116 I/O (io), 117 I/O (io), 118 I/O (io), 119 GND (power), 120 I/O (io), 121 I/O (io), 122 D5-I/O (io), 123 ~{CS}0-I/O (io), 124 I/O (io), 125 I/O (io), 126 I/O (io), 127 I/O (io), 128 D4-I/O (io), 129 I/O (io), 130 VCC (power), 131 GND (power), 132 D3-I/O (io), 133 ~{RS}-I/O (io), 134 I/O (io), 135 I/O (io), 136 I/O (io), 137 I/O (io), 138 D2-I/O (io), 139 I/O (io), 140 I/O (io), 141 I/O (io), 142 GND (power), 143 I/O (io), 144 I/O (io), 145 I/O (io), 146 I/O (io), 147 D1-I/O (io), 148 ~{RCLK}-~{BUSY}/RDY-I/O (io), 149 I/O (io), 150 I/O (io), 151 D0-DIN-I/O (io), 152 SGCK4-DOUT-I/O (io), 153 CCLK (io), 154 VCC (power), 155 NC, 156 NC, 157 NC, 158 NC, 159 TDO (out), 160 GND (power), 161 A0-~{WS}-I/O (io), 162 A1-PGCK4-I/O (io), 163 I/O (io), 164 I/O (io), 165 A2-CS1-I/O (io), 166 A3-I/O (io), 167 I/O (io), 168 I/O (io), 169 I/O (io), 170 I/O (io), 171 GND (power), 172 I/O (io), 173 I/O (io), 174 A4-I/O (io), 175 A5-I/O (io), 176 I/O (io), 177 I/O (io), 178 I/O (io), 179 I/O (io), 180 A6-I/O (io), 181 A7-I/O (io), 182 GND (power), 183 VCC (power), 184 A8-I/O (io), 185 A9-I/O (io), 186 I/O (io), 187 I/O (io), 188 I/O (io), 189 I/O (io), 190 A10-I/O (io), 191 A11-I/O (io), 192 I/O (io), 193 I/O (io), 194 GND (power), 195 I/O (io), 196 I/O (io), 197 I/O (io), 198 I/O (io), 199 A12-I/O (io), 200 A13-I/O (io), 201 I/O (io), 202 I/O (io), 203 A14-I/O (io), 204 A15-SGCK1-I/O (io), 205 VCC (power), 206 NC, 207 NC, 208 NC

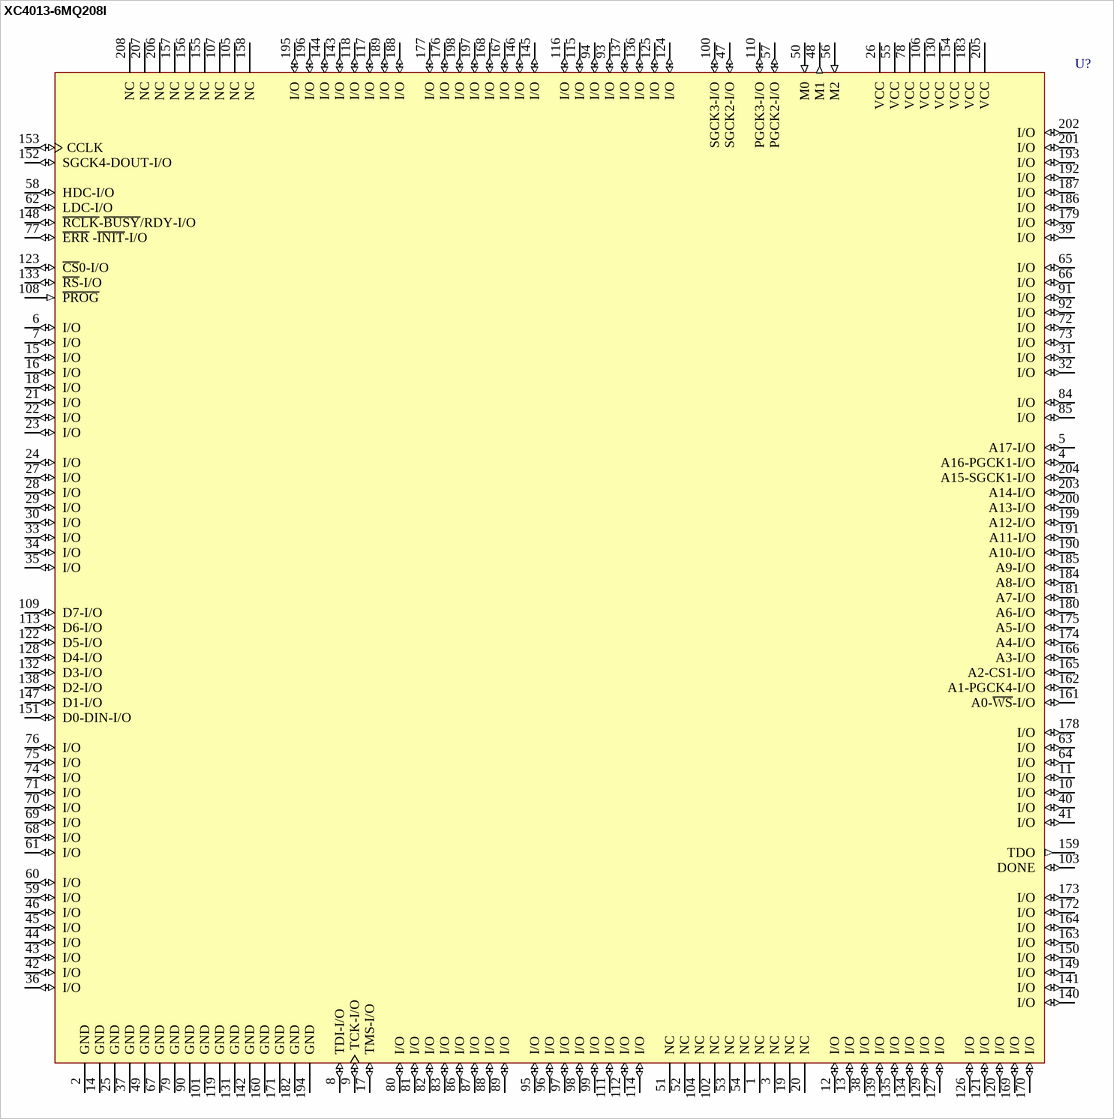
[diagram p169: symbol XC4013-6MQ208I]

## XC4013-6MQ208I
designator U?
Logic Cell Array, with 158 I/O Pins, 208-Pin MQFP, Industrial Grade; ComponentAvailability: Not for New Design; Published: 8-Jun-2000; LatestRevisionDate: 13-Apr-2006; LatestRevisionNote: IPC-7351 Footprint Added.; DatasheetVersion: 1994; PackageVersion: Aug-1996; PackageReference: MQ208; Publisher: Altium Limited; PackageDescription: 208-Pin Metal Quad Flat Pack (MQ208); Code_JEDEC: MO-143-FAI; ComponentLink1Description: Manufacturer Link; ComponentLink1URL: http://www.xilinx.com/; ComponentLink2Description: Datasheet; ComponentLink2URL: http://direct.xilinx.com/bvdocs/publications/ds015.pdf
footprint MQ208_N (Shrink QFP, 208-Leads, Body 27.7x27.7mm, Pitch 0.5mm, IPC Medium Density)
footprint MQ208_L (Shrink QFP, 208-Leads, Body 27.7x27.7mm, Pitch 0.5mm, IPC High Density)
footprint MQ208_M (Shrink QFP, 208-Leads, Body 27.7x27.7mm, Pitch 0.5mm, IPC Low Density)
3D model XC4013-MQ208 (208-Pin Metal Quad Flat Pack (MQ208))
pins: 1 NC, 2 GND (power), 3 NC, 4 A16-PGCK1-I/O (io), 5 A17-I/O (io), 6 I/O (io), 7 I/O (io), 8 TDI-I/O (io), 9 TCK-I/O (io), 10 I/O (io), 11 I/O (io), 12 I/O (io), 13 I/O (io), 14 GND (power), 15 I/O (io), 16 I/O (io), 17 TMS-I/O (io), 18 I/O (io), 19 NC, 20 NC, 21 I/O (io), 22 I/O (io), 23 I/O (io), 24 I/O (io), 25 GND (power), 26 VCC (power), 27 I/O (io), 28 I/O (io), 29 I/O (io), 30 I/O (io), 31 I/O (io), 32 I/O (io), 33 I/O (io), 34 I/O (io), 35 I/O (io), 36 I/O (io), 37 GND (power), 38 I/O (io), 39 I/O (io), 40 I/O (io), 41 I/O (io), 42 I/O (io), 43 I/O (io), 44 I/O (io), 45 I/O (io), 46 I/O (io), 47 SGCK2-I/O (io), 48 M1 (out), 49 GND (power), 50 M0 (in), 51 NC, 52 NC, 53 NC, 54 NC, 55 VCC (power), 56 M2 (in), 57 PGCK2-I/O (io), 58 HDC-I/O (io), 59 I/O (io), 60 I/O (io), 61 I/O (io), 62 LDC-I/O (io), 63 I/O (io), 64 I/O (io), 65 I/O (io), 66 I/O (io), 67 GND (power), 68 I/O (io), 69 I/O (io), 70 I/O (io), 71 I/O (io), 72 I/O (io), 73 I/O (io), 74 I/O (io), 75 I/O (io), 76 I/O (io), 77 ~{ERR} -~{INIT}-I/O (io), 78 VCC (power), 79 GND (power), 80 I/O (io), 81 I/O (io), 82 I/O (io), 83 I/O (io), 84 I/O (io), 85 I/O (io), 86 I/O (io), 87 I/O (io), 88 I/O (io), 89 I/O (io), 90 GND (power), 91 I/O (io), 92 I/O (io), 93 I/O (io), 94 I/O (io), 95 I/O (io), 96 I/O (io), 97 I/O (io), 98 I/O (io), 99 I/O (io), 100 SGCK3-I/O (io), 101 GND (power), 102 NC, 103 DONE (io), 104 NC, 105 NC, 106 VCC (power), 107 NC, 108 ~{PROG} (in), 109 D7-I/O (io), 110 PGCK3-I/O (io), 111 I/O (io), 112 I/O (io), 113 D6-I/O (io), 114 I/O (io), 115 I/O (io), 116 I/O (io), 117 I/O (io), 118 I/O (io), 119 GND (power), 120 I/O (io), 121 I/O (io), 122 D5-I/O (io), 123 ~{CS}0-I/O (io), 124 I/O (io), 125 I/O (io), 126 I/O (io), 127 I/O (io), 128 D4-I/O (io), 129 I/O (io), 130 VCC (power), 131 GND (power), 132 D3-I/O (io), 133 ~{RS}-I/O (io), 134 I/O (io), 135 I/O (io), 136 I/O (io), 137 I/O (io), 138 D2-I/O (io), 139 I/O (io), 140 I/O (io), 141 I/O (io), 142 GND (power), 143 I/O (io), 144 I/O (io), 145 I/O (io), 146 I/O (io), 147 D1-I/O (io), 148 ~{RCLK}-~{BUSY}/RDY-I/O (io), 149 I/O (io), 150 I/O (io), 151 D0-DIN-I/O (io), 152 SGCK4-DOUT-I/O (io), 153 CCLK (io), 154 VCC (power), 155 NC, 156 NC, 157 NC, 158 NC, 159 TDO (out), 160 GND (power), 161 A0-~{WS}-I/O (io), 162 A1-PGCK4-I/O (io), 163 I/O (io), 164 I/O (io), 165 A2-CS1-I/O (io), 166 A3-I/O (io), 167 I/O (io), 168 I/O (io), 169 I/O (io), 170 I/O (io), 171 GND (power), 172 I/O (io), 173 I/O (io), 174 A4-I/O (io), 175 A5-I/O (io), 176 I/O (io), 177 I/O (io), 178 I/O (io), 179 I/O (io), 180 A6-I/O (io), 181 A7-I/O (io), 182 GND (power), 183 VCC (power), 184 A8-I/O (io), 185 A9-I/O (io), 186 I/O (io), 187 I/O (io), 188 I/O (io), 189 I/O (io), 190 A10-I/O (io), 191 A11-I/O (io), 192 I/O (io), 193 I/O (io), 194 GND (power), 195 I/O (io), 196 I/O (io), 197 I/O (io), 198 I/O (io), 199 A12-I/O (io), 200 A13-I/O (io), 201 I/O (io), 202 I/O (io), 203 A14-I/O (io), 204 A15-SGCK1-I/O (io), 205 VCC (power), 206 NC, 207 NC, 208 NC

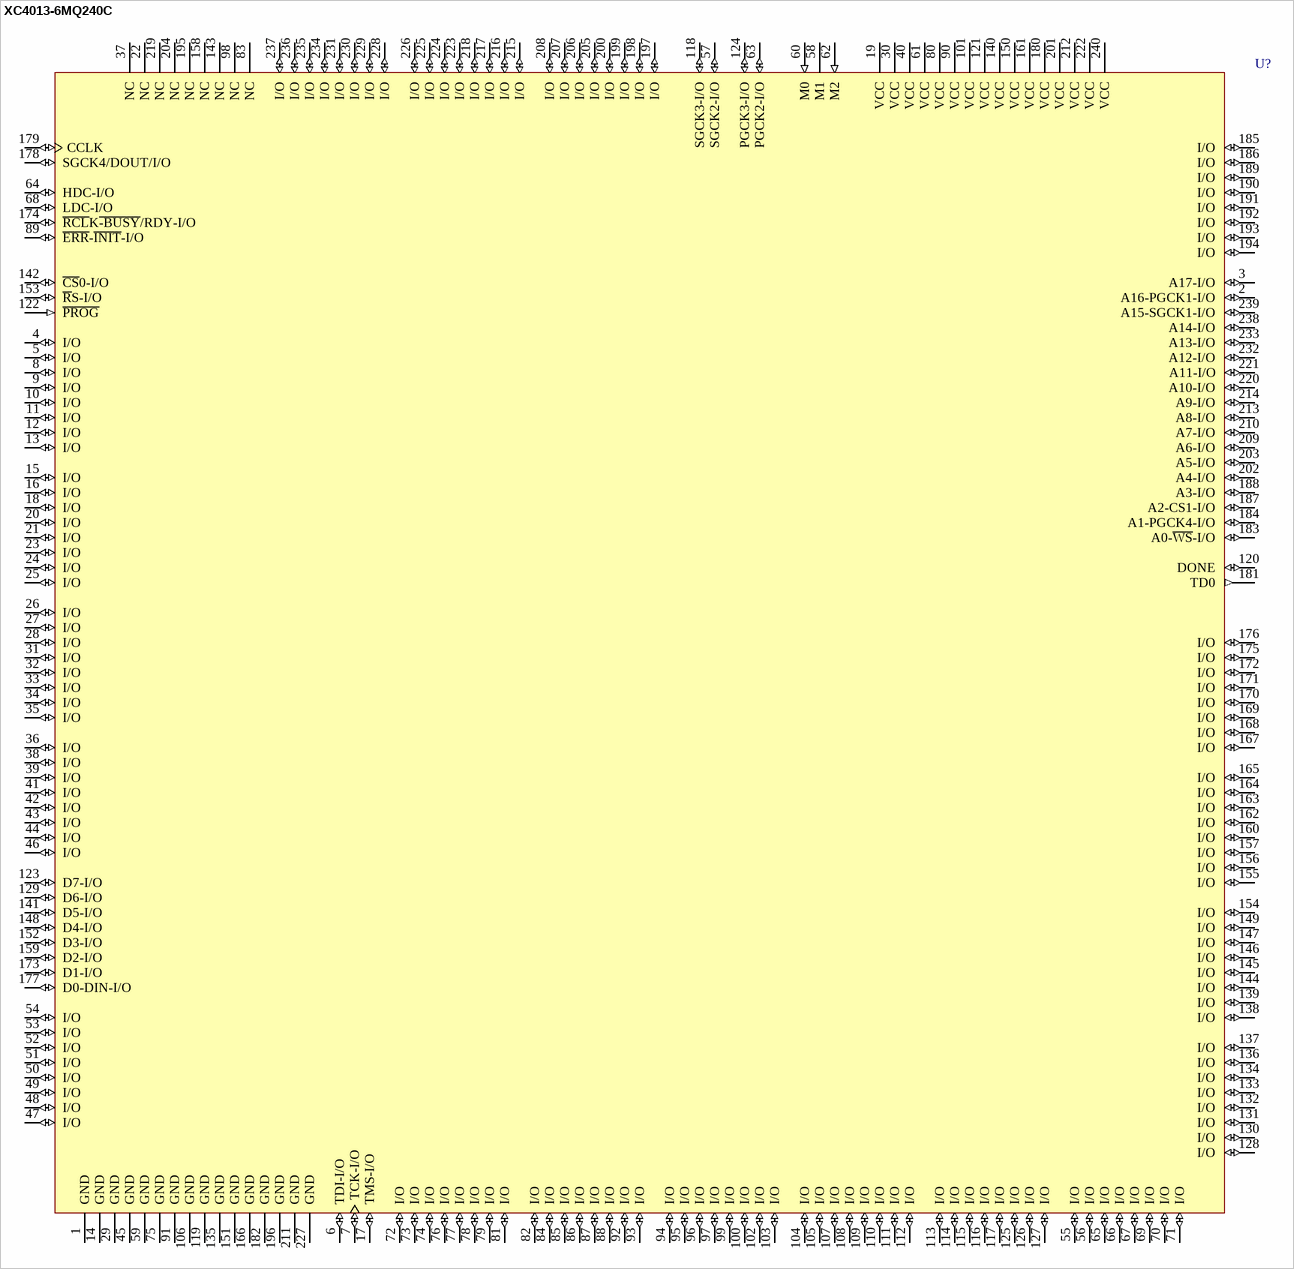
[diagram p170: symbol XC4013-6MQ240C]

## XC4013-6MQ240C
designator U?
Logic Cell Array, with 192 I/O Pins, 240-Pin MQFP, Commercial Grade; ComponentAvailability: Not for New Design; Published: 8-Jun-2000; LatestRevisionDate: 13-Apr-2006; LatestRevisionNote: IPC-7351 Footprint Added.; DatasheetVersion: 1994; PackageVersion: 1994; PackageReference: MQ240; Publisher: Altium Limited; PackageDescription: 240-Pin Metal Quad Flat Pack (MQ240); ComponentLink1Description: Manufacturer Link; ComponentLink1URL: http://www.xilinx.com/; ComponentLink2Description: Datasheet; ComponentLink2URL: http://direct.xilinx.com/bvdocs/publications/ds015.pdf
footprint MQ240_N (Shrink QFP, 240-Leads, Body 31.6x31.6mm, Pitch 0.5mm, IPC Medium Density)
footprint MQ240_L (Shrink QFP, 240-Leads, Body 31.6x31.6mm, Pitch 0.5mm, IPC High Density)
footprint MQ240_M (Shrink QFP, 240-Leads, Body 31.6x31.6mm, Pitch 0.5mm, IPC Low Density)
3D model XC4013-MQ240 (240-Pin Metal Quad Flat Pack (MQ240))
pins: 1 GND (power), 2 A16-PGCK1-I/O (io), 3 A17-I/O (io), 4 I/O (io), 5 I/O (io), 6 TDI-I/O (io), 7 TCK-I/O (io), 8 I/O (io), 9 I/O (io), 10 I/O (io), 11 I/O (io), 12 I/O (io), 13 I/O (io), 14 GND (power), 15 I/O (io), 16 I/O (io), 17 TMS-I/O (io), 18 I/O (io), 19 VCC (power), 20 I/O (io), 21 I/O (io), 22 NC, 23 I/O (io), 24 I/O (io), 25 I/O (io), 26 I/O (io), 27 I/O (io), 28 I/O (io), 29 GND (power), 30 VCC (power), 31 I/O (io), 32 I/O (io), 33 I/O (io), 34 I/O (io), 35 I/O (io), 36 I/O (io), 37 NC, 38 I/O (io), 39 I/O (io), 40 VCC (power), 41 I/O (io), 42 I/O (io), 43 I/O (io), 44 I/O (io), 45 GND (power), 46 I/O (io), 47 I/O (io), 48 I/O (io), 49 I/O (io), 50 I/O (io), 51 I/O (io), 52 I/O (io), 53 I/O (io), 54 I/O (io), 55 I/O (io), 56 I/O (io), 57 SGCK2-I/O (io), 58 M1 (hiz), 59 GND (power), 60 M0 (in), 61 VCC (power), 62 M2 (in), 63 PGCK2-I/O (io), 64 HDC-I/O (io), 65 I/O (io), 66 I/O (io), 67 I/O (io), 68 LDC-I/O (io), 69 I/O (io), 70 I/O (io), 71 I/O (io), 72 I/O (io), 73 I/O (io), 74 I/O (io), 75 GND (power), 76 I/O (io), 77 I/O (io), 78 I/O (io), 79 I/O (io), 80 VCC (power), 81 I/O (io), 82 I/O (io), 83 NC, 84 I/O (io), 85 I/O (io), 86 I/O (io), 87 I/O (io), 88 I/O (io), 89 ~{ERR}-~{INIT}-I/O (io), 90 VCC (power), 91 GND (power), 92 I/O (io), 93 I/O (io), 94 I/O (io), 95 I/O (io), 96 I/O (io), 97 I/O (io), 98 NC, 99 I/O (io), 100 I/O (io), 101 VCC (power), 102 I/O (io), 103 I/O (io), 104 I/O (io), 105 I/O (io), 106 GND (power), 107 I/O (io), 108 I/O (io), 109 I/O (io), 110 I/O (io), 111 I/O (io), 112 I/O (io), 113 I/O (io), 114 I/O (io), 115 I/O (io), 116 I/O (io), 117 I/O (io), 118 SGCK3-I/O (io), 119 GND (power), 120 DONE (io), 121 VCC (power), 122 ~{PROG} (in), 123 D7-I/O (io), 124 PGCK3-I/O (io), 125 I/O (io), 126 I/O (io), 127 I/O (io), 128 I/O (io), 129 D6-I/O (io), 130 I/O (io), 131 I/O (io), 132 I/O (io), 133 I/O (io), 134 I/O (io), 135 GND (power), 136 I/O (io), 137 I/O (io), 138 I/O (io), 139 I/O (io), 140 VCC (power), 141 D5-I/O (io), 142 ~{CS}0-I/O (io), 143 NC, 144 I/O (io), 145 I/O (io), 146 I/O (io), 147 I/O (io), 148 D4-I/O (io), 149 I/O (io), 150 VCC (power), 151 GND (power), 152 D3-I/O (io), 153 ~{R}S-I/O (io), 154 I/O (io), 155 I/O (io), 156 I/O (io), 157 I/O (io), 158 NC, 159 D2-I/O (io), 160 I/O (io), 161 VCC (power), 162 I/O (io), 163 I/O (io), 164 I/O (io), 165 I/O (io), 166 GND (power), 167 I/O (io), 168 I/O (io), 169 I/O (io), 170 I/O (io), 171 I/O (io), 172 I/O (io), 173 D1-I/O (io), 174 ~{RCL}K~{-BUSY}/RDY-I/O (io), 175 I/O (io), 176 I/O (io), 177 D0-DIN-I/O (io), 178 SGCK4/DOUT/I/O (io), 179 CCLK (io), 180 VCC (power), 181 TD0 (out), 182 GND (power), 183 A0-~{WS}-I/O (io), 184 A1-PGCK4-I/O (io), 185 I/O (io), 186 I/O (io), 187 A2-CS1-I/O (io), 188 A3-I/O (io), 189 I/O (io), 190 I/O (io), 191 I/O (io), 192 I/O (io), 193 I/O (io), 194 I/O (io), 195 NC, 196 GND (power), 197 I/O (io), 198 I/O (io), 199 I/O (io), 200 I/O (io), 201 VCC (power), 202 A4-I/O (io), 203 A5-I/O (io), 204 NC, 205 I/O (io), 206 I/O (io), 207 I/O (io), 208 I/O (io), 209 A6-I/O (io), 210 A7-I/O (io), 211 GND (power), 212 VCC (power), 213 A8-I/O (io), 214 A9-I/O (io), 215 I/O (io), 216 I/O (io), 217 I/O (io), 218 I/O (io), 219 NC, 220 A10-I/O (io), 221 A11-I/O (io), 222 VCC (power), 223 I/O (io), 224 I/O (io), 225 I/O (io), 226 I/O (io), 227 GND (power), 228 I/O (io), 229 I/O (io), 230 I/O (io), 231 I/O (io), 232 A12-I/O (io), 233 A13-I/O (io), 234 I/O (io), 235 I/O (io), 236 I/O (io), 237 I/O (io), 238 A14-I/O (io), 239 A15-SGCK1-I/O (io), 240 VCC (power)

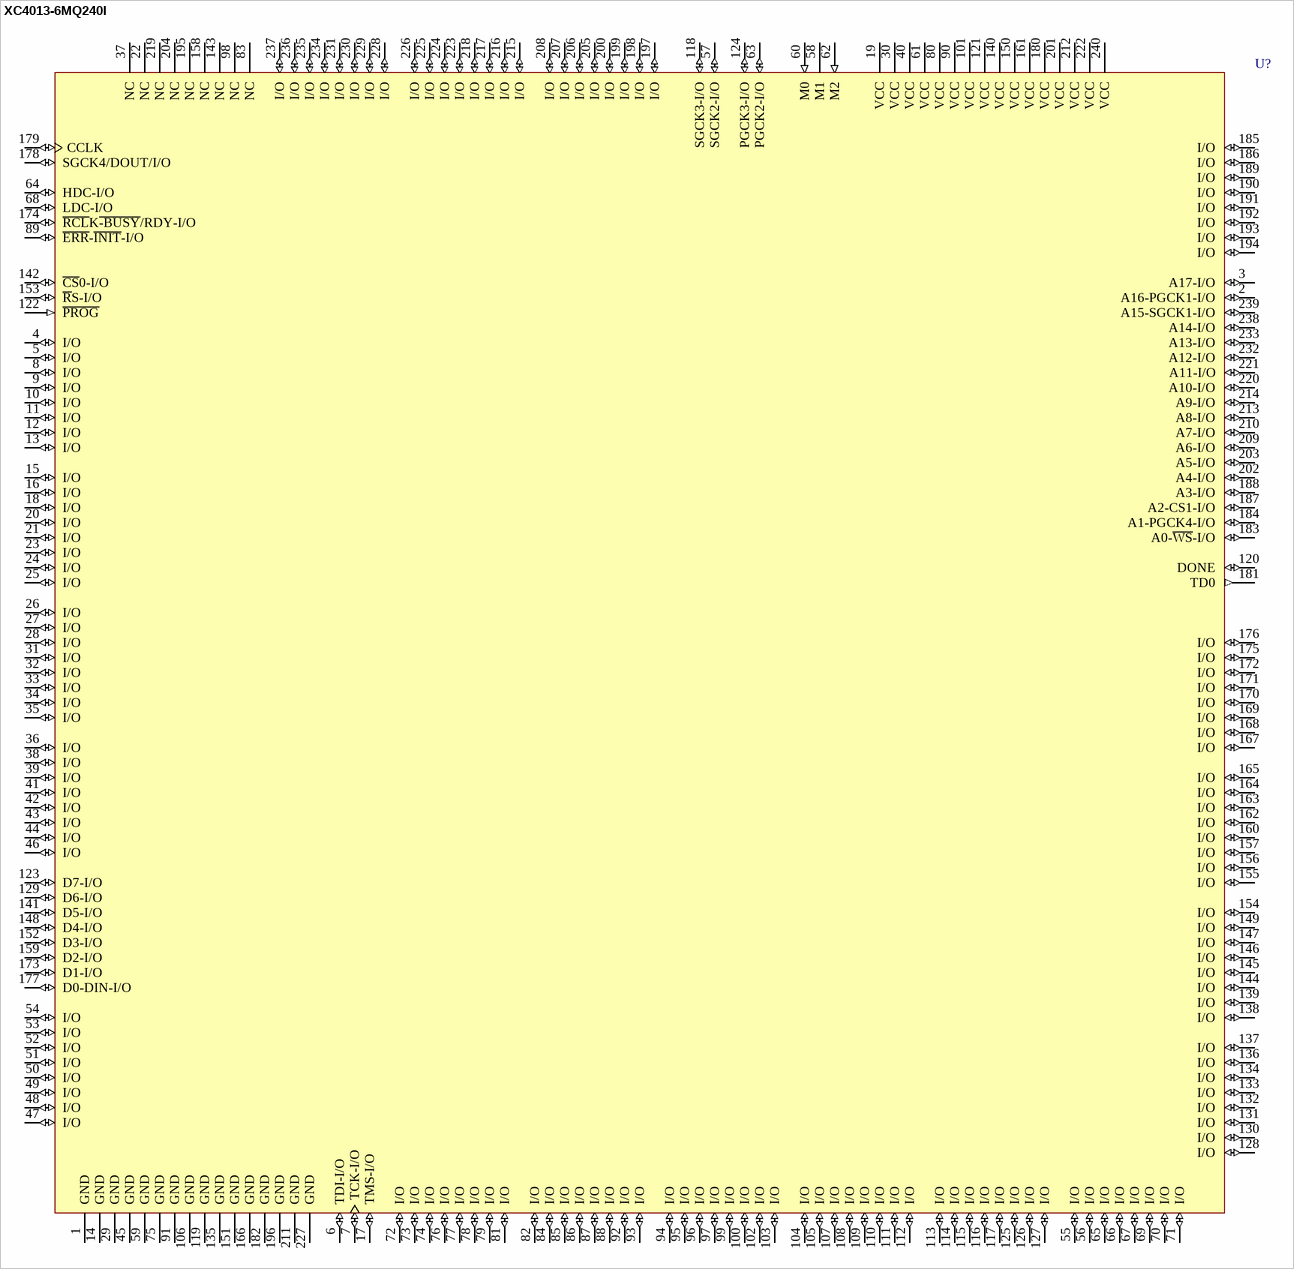
[diagram p171: symbol XC4013-6MQ240I]

## XC4013-6MQ240I
designator U?
Logic Cell Array, with 192 I/O Pins, 240-Pin MQFP, Industrial Grade; ComponentAvailability: Not for New Design; Published: 8-Jun-2000; LatestRevisionDate: 13-Apr-2006; LatestRevisionNote: IPC-7351 Footprint Added.; DatasheetVersion: 1994; PackageVersion: 1994; PackageReference: MQ240; Publisher: Altium Limited; PackageDescription: 240-Pin Metal Quad Flat Pack (MQ240); ComponentLink1Description: Manufacturer Link; ComponentLink1URL: http://www.xilinx.com/; ComponentLink2Description: Datasheet; ComponentLink2URL: http://direct.xilinx.com/bvdocs/publications/ds015.pdf
footprint MQ240_N (Shrink QFP, 240-Leads, Body 31.6x31.6mm, Pitch 0.5mm, IPC Medium Density)
footprint MQ240_L (Shrink QFP, 240-Leads, Body 31.6x31.6mm, Pitch 0.5mm, IPC High Density)
footprint MQ240_M (Shrink QFP, 240-Leads, Body 31.6x31.6mm, Pitch 0.5mm, IPC Low Density)
3D model XC4013-MQ240 (240-Pin Metal Quad Flat Pack (MQ240))
pins: 1 GND (power), 2 A16-PGCK1-I/O (io), 3 A17-I/O (io), 4 I/O (io), 5 I/O (io), 6 TDI-I/O (io), 7 TCK-I/O (io), 8 I/O (io), 9 I/O (io), 10 I/O (io), 11 I/O (io), 12 I/O (io), 13 I/O (io), 14 GND (power), 15 I/O (io), 16 I/O (io), 17 TMS-I/O (io), 18 I/O (io), 19 VCC (power), 20 I/O (io), 21 I/O (io), 22 NC, 23 I/O (io), 24 I/O (io), 25 I/O (io), 26 I/O (io), 27 I/O (io), 28 I/O (io), 29 GND (power), 30 VCC (power), 31 I/O (io), 32 I/O (io), 33 I/O (io), 34 I/O (io), 35 I/O (io), 36 I/O (io), 37 NC, 38 I/O (io), 39 I/O (io), 40 VCC (power), 41 I/O (io), 42 I/O (io), 43 I/O (io), 44 I/O (io), 45 GND (power), 46 I/O (io), 47 I/O (io), 48 I/O (io), 49 I/O (io), 50 I/O (io), 51 I/O (io), 52 I/O (io), 53 I/O (io), 54 I/O (io), 55 I/O (io), 56 I/O (io), 57 SGCK2-I/O (io), 58 M1 (hiz), 59 GND (power), 60 M0 (in), 61 VCC (power), 62 M2 (in), 63 PGCK2-I/O (io), 64 HDC-I/O (io), 65 I/O (io), 66 I/O (io), 67 I/O (io), 68 LDC-I/O (io), 69 I/O (io), 70 I/O (io), 71 I/O (io), 72 I/O (io), 73 I/O (io), 74 I/O (io), 75 GND (power), 76 I/O (io), 77 I/O (io), 78 I/O (io), 79 I/O (io), 80 VCC (power), 81 I/O (io), 82 I/O (io), 83 NC, 84 I/O (io), 85 I/O (io), 86 I/O (io), 87 I/O (io), 88 I/O (io), 89 ~{ERR}-~{INIT}-I/O (io), 90 VCC (power), 91 GND (power), 92 I/O (io), 93 I/O (io), 94 I/O (io), 95 I/O (io), 96 I/O (io), 97 I/O (io), 98 NC, 99 I/O (io), 100 I/O (io), 101 VCC (power), 102 I/O (io), 103 I/O (io), 104 I/O (io), 105 I/O (io), 106 GND (power), 107 I/O (io), 108 I/O (io), 109 I/O (io), 110 I/O (io), 111 I/O (io), 112 I/O (io), 113 I/O (io), 114 I/O (io), 115 I/O (io), 116 I/O (io), 117 I/O (io), 118 SGCK3-I/O (io), 119 GND (power), 120 DONE (io), 121 VCC (power), 122 ~{PROG} (in), 123 D7-I/O (io), 124 PGCK3-I/O (io), 125 I/O (io), 126 I/O (io), 127 I/O (io), 128 I/O (io), 129 D6-I/O (io), 130 I/O (io), 131 I/O (io), 132 I/O (io), 133 I/O (io), 134 I/O (io), 135 GND (power), 136 I/O (io), 137 I/O (io), 138 I/O (io), 139 I/O (io), 140 VCC (power), 141 D5-I/O (io), 142 ~{CS}0-I/O (io), 143 NC, 144 I/O (io), 145 I/O (io), 146 I/O (io), 147 I/O (io), 148 D4-I/O (io), 149 I/O (io), 150 VCC (power), 151 GND (power), 152 D3-I/O (io), 153 ~{R}S-I/O (io), 154 I/O (io), 155 I/O (io), 156 I/O (io), 157 I/O (io), 158 NC, 159 D2-I/O (io), 160 I/O (io), 161 VCC (power), 162 I/O (io), 163 I/O (io), 164 I/O (io), 165 I/O (io), 166 GND (power), 167 I/O (io), 168 I/O (io), 169 I/O (io), 170 I/O (io), 171 I/O (io), 172 I/O (io), 173 D1-I/O (io), 174 ~{RCL}K~{-BUSY}/RDY-I/O (io), 175 I/O (io), 176 I/O (io), 177 D0-DIN-I/O (io), 178 SGCK4/DOUT/I/O (io), 179 CCLK (io), 180 VCC (power), 181 TD0 (out), 182 GND (power), 183 A0-~{WS}-I/O (io), 184 A1-PGCK4-I/O (io), 185 I/O (io), 186 I/O (io), 187 A2-CS1-I/O (io), 188 A3-I/O (io), 189 I/O (io), 190 I/O (io), 191 I/O (io), 192 I/O (io), 193 I/O (io), 194 I/O (io), 195 NC, 196 GND (power), 197 I/O (io), 198 I/O (io), 199 I/O (io), 200 I/O (io), 201 VCC (power), 202 A4-I/O (io), 203 A5-I/O (io), 204 NC, 205 I/O (io), 206 I/O (io), 207 I/O (io), 208 I/O (io), 209 A6-I/O (io), 210 A7-I/O (io), 211 GND (power), 212 VCC (power), 213 A8-I/O (io), 214 A9-I/O (io), 215 I/O (io), 216 I/O (io), 217 I/O (io), 218 I/O (io), 219 NC, 220 A10-I/O (io), 221 A11-I/O (io), 222 VCC (power), 223 I/O (io), 224 I/O (io), 225 I/O (io), 226 I/O (io), 227 GND (power), 228 I/O (io), 229 I/O (io), 230 I/O (io), 231 I/O (io), 232 A12-I/O (io), 233 A13-I/O (io), 234 I/O (io), 235 I/O (io), 236 I/O (io), 237 I/O (io), 238 A14-I/O (io), 239 A15-SGCK1-I/O (io), 240 VCC (power)

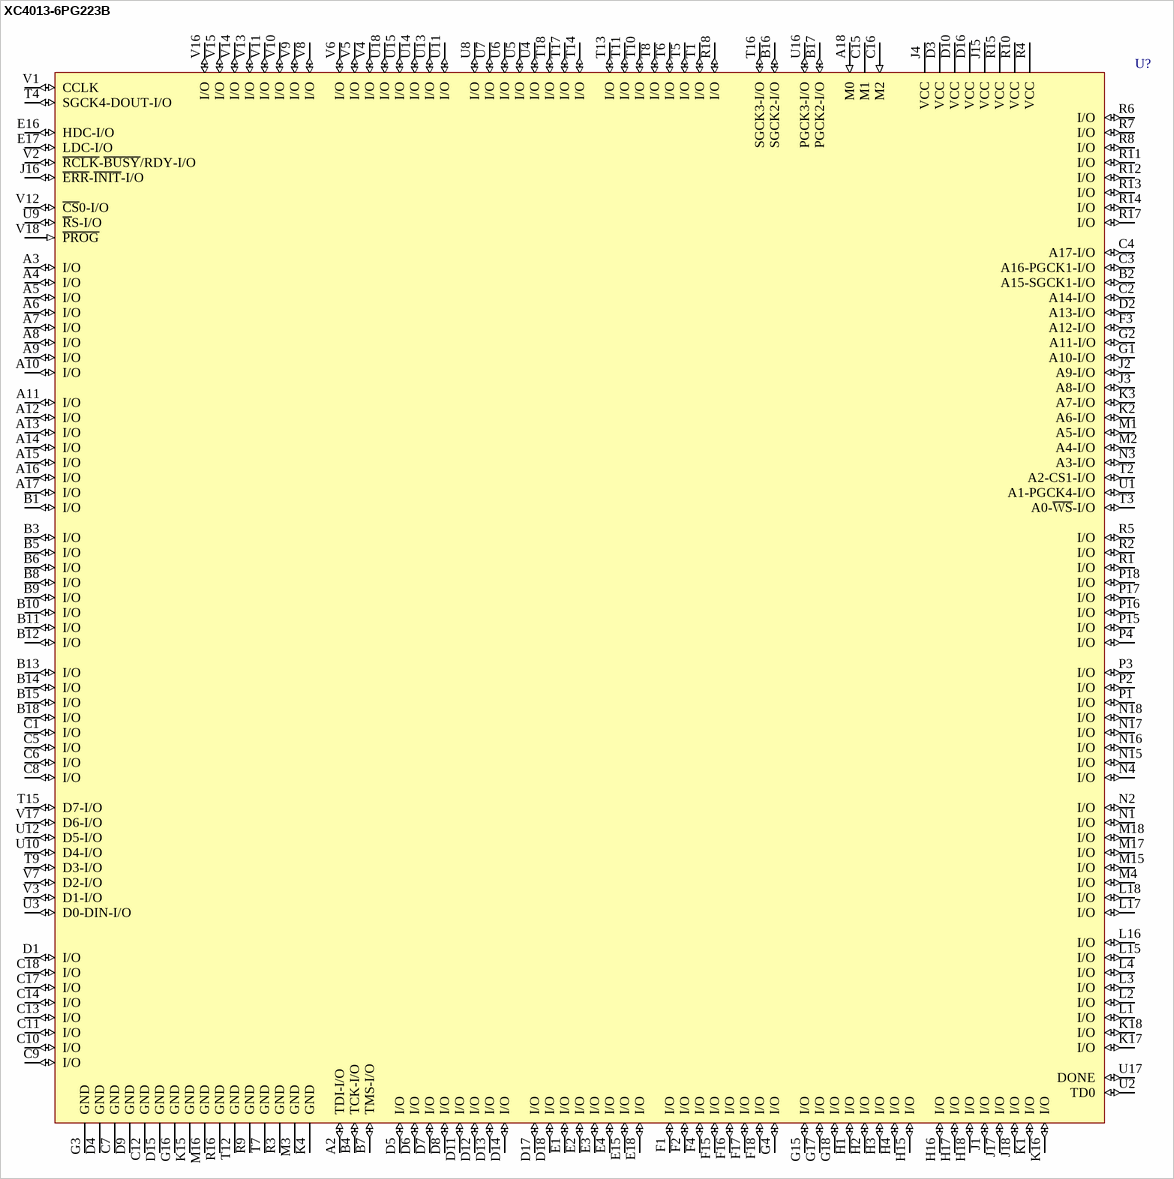
[diagram p172: symbol XC4013-6PG223B]

## XC4013-6PG223B
designator U?
Logic Cell Array, with 193 I/O Pins, 223-Pin PGA, Military Class B Grade; ComponentAvailability: Not for New Design; Published: 8-Jun-2000; LatestRevisionDate: 04-Mar-2005; LatestRevisionNote: Stylized 3D Model Added.; DatasheetVersion: 1994; PackageVersion: ver1.0, Jun-2000; PackageReference: PG223; Publisher: Altium Limited; PackageDescription: 223-Pin Ceramic Pin Grid Array (PG223); ComponentLink1Description: Manufacturer Link; ComponentLink1URL: http://www.xilinx.com/; ComponentLink2Description: Datasheet; ComponentLink2URL: http://direct.xilinx.com/bvdocs/publications/ds015.pdf
footprint PG223 (PGA, 223-Leads, Body 47x47mm, Pitch 2.54mm)
3D model XC4013-PG223 (223-Pin Ceramic Pin Grid Array (PG223))
pins: A2 TDI-I/O (io), A3 I/O (io), A4 I/O (io), A5 I/O (io), A6 I/O (io), A7 I/O (io), A8 I/O (io), A9 I/O (io), A10 I/O (io), A11 I/O (io), A12 I/O (io), A13 I/O (io), A14 I/O (io), A15 I/O (io), A16 I/O (io), A17 I/O (io), A18 M0 (in), B1 I/O (io), B2 A15-SGCK1-I/O (io), B3 I/O (io), B4 TCK-I/O (io), B5 I/O (io), B6 I/O (io), B7 TMS-I/O (io), B8 I/O (io), B9 I/O (io), B10 I/O (io), B11 I/O (io), B12 I/O (io), B13 I/O (io), B14 I/O (io), B15 I/O (io), B16 SGCK2-I/O (io), B17 PGCK2-I/O (io), B18 I/O (io), C1 I/O (io), C2 A14-I/O (io), C3 A16-PGCK1-I/O (io), C4 A17-I/O (io), C5 I/O (io), C6 I/O (io), C7 GND (power), C8 I/O (io), C9 I/O (io), C10 I/O (io), C11 I/O (io), C12 GND (power), C13 I/O (io), C14 I/O (io), C15 M1 (hiz), C16 M2 (in), C17 I/O (io), C18 I/O (io), D1 I/O (io), D2 A13-I/O (io), D3 VCC (power), D4 GND (power), D5 I/O (io), D6 I/O (io), D7 I/O (io), D8 I/O (io), D9 GND (power), D10 VCC (power), D11 I/O (io), D12 I/O (io), D13 I/O (io), D14 I/O (io), D15 GND (power), D16 VCC (power), D17 I/O (io), D18 I/O (io), E1 I/O (io), E2 I/O (io), E3 I/O (io), E4 I/O (io), E15 I/O (io), E16 HDC-I/O (io), E17 LDC-I/O (io), E18 I/O (io), F1 I/O (io), F2 I/O (io), F3 A12-I/O (io), F4 I/O (io), F15 I/O (io), F16 I/O (io), F17 I/O (io), F18 I/O (io), G1 A10-I/O (io), G2 A11-I/O (io), G3 GND (power), G4 I/O (io), G15 I/O (io), G16 GND (power), G17 I/O (io), G18 I/O (io), H1 I/O (io), H2 I/O (io), H3 I/O (io), H4 I/O (io), H15 I/O (io), H16 I/O (io), H17 I/O (io), H18 I/O (io), J1 I/O (io), J2 A9-I/O (io), J3 A8-I/O (io), J4 VCC (power), J15 VCC (power), J16 ~{ERR}-~{INIT}-I/O (io), J17 I/O (io), J18 I/O (io), K1 I/O (io), K2 A6-I/O (io), K3 A7-I/O (io), K4 GND (power), K15 GND (power), K16 I/O (io), K17 I/O (io), K18 I/O (io), L1 I/O (io), L2 I/O (io), L3 I/O (io), L4 I/O (io), L15 I/O (io), L16 I/O (io), L17 I/O (io), L18 I/O (io), M1 A5-I/O (io), M2 A4-I/O (io), M3 GND (power), M4 I/O (io), M15 I/O (io), M16 GND (power), M17 I/O (io), M18 I/O (io), N1 I/O (io), N2 I/O (io), N3 A3-I/O (io), N4 I/O (io), N15 I/O (io), N16 I/O (io), N17 I/O (io), N18 I/O (io), P1 I/O (io), P2 I/O (io), P3 I/O (io), P4 I/O (io), P15 I/O (io), P16 I/O (io), P17 I/O (io), P18 I/O (io), R1 I/O (io), R2 I/O (io), R3 GND (power), R4 VCC (power), R5 I/O (io), R6 I/O (io), R7 I/O (io), R8 I/O (io), R9 GND (power), R10 VCC (power), R11 I/O (io), R12 I/O (io), R13 I/O (io), R14 I/O (io), R15 VCC (power), R16 GND (power), R17 I/O (io), R18 I/O (io), T1 I/O (io), T2 A2-CS1-I/O (io), T3 A0-~{WS}-I/O (io), T4 SGCK4-DOUT-I/O (io), T5 I/O (io), T6 I/O (io), T7 GND (power), T8 I/O (io), T9 D3-I/O (io), T10 I/O (io), T11 I/O (io), T12 GND (power), T13 I/O (io), T14 I/O (io), T15 D7-I/O (io), T16 SGCK3-I/O (io), T17 I/O (io), T18 I/O (io), U1 A1-PGCK4-I/O (io), U2 TD0 (io), U3 D0-DIN-I/O (io), U4 I/O (io), U5 I/O (io), U6 I/O (io), U7 I/O (io), U8 I/O (io), U9 ~{R}S-I/O (io), U10 D4-I/O (io), U11 I/O (io), U12 D5-I/O (io), U13 I/O (io), U14 I/O (io), U15 I/O (io), U16 PGCK3-I/O (io), U17 DONE (io), U18 I/O (io), V1 CCLK (io), V2 ~{RCLK}-~{BUSY}/RDY-I/O (io), V3 D1-I/O (io), V4 I/O (io), V5 I/O (io), V6 I/O (io), V7 D2-I/O (io), V8 I/O (io), V9 I/O (io), V10 I/O (io), V11 I/O (io), V12 ~{CS}0-I/O (io), V13 I/O (io), V14 I/O (io), V15 I/O (io), V16 I/O (io), V17 D6-I/O (io), V18 ~{PROG} (in)

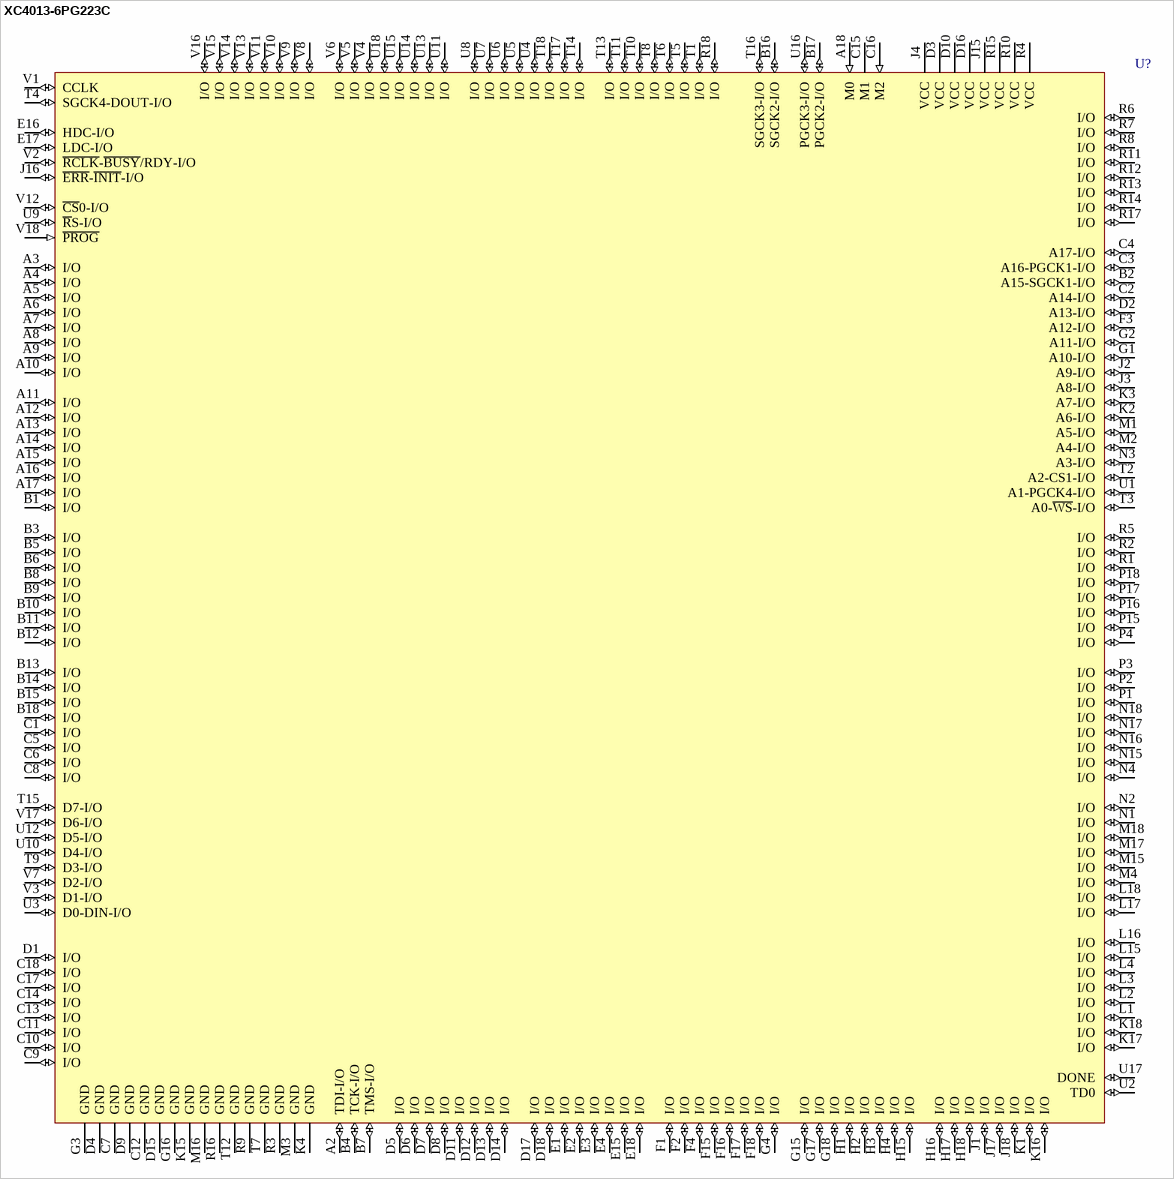
[diagram p173: symbol XC4013-6PG223C]

## XC4013-6PG223C
designator U?
Logic Cell Array, with 193 I/O Pins, 223-Pin PGA, Commercial Grade; ComponentAvailability: Not for New Design; Published: 8-Jun-2000; LatestRevisionDate: 04-Mar-2005; LatestRevisionNote: Stylized 3D Model Added.; DatasheetVersion: 1994; PackageVersion: ver1.0, Jun-2000; PackageReference: PG223; Publisher: Altium Limited; PackageDescription: 223-Pin Ceramic Pin Grid Array (PG223); ComponentLink1Description: Manufacturer Link; ComponentLink1URL: http://www.xilinx.com/; ComponentLink2Description: Datasheet; ComponentLink2URL: http://direct.xilinx.com/bvdocs/publications/ds015.pdf
footprint PG223 (PGA, 223-Leads, Body 47x47mm, Pitch 2.54mm)
3D model XC4013-PG223 (223-Pin Ceramic Pin Grid Array (PG223))
pins: A2 TDI-I/O (io), A3 I/O (io), A4 I/O (io), A5 I/O (io), A6 I/O (io), A7 I/O (io), A8 I/O (io), A9 I/O (io), A10 I/O (io), A11 I/O (io), A12 I/O (io), A13 I/O (io), A14 I/O (io), A15 I/O (io), A16 I/O (io), A17 I/O (io), A18 M0 (in), B1 I/O (io), B2 A15-SGCK1-I/O (io), B3 I/O (io), B4 TCK-I/O (io), B5 I/O (io), B6 I/O (io), B7 TMS-I/O (io), B8 I/O (io), B9 I/O (io), B10 I/O (io), B11 I/O (io), B12 I/O (io), B13 I/O (io), B14 I/O (io), B15 I/O (io), B16 SGCK2-I/O (io), B17 PGCK2-I/O (io), B18 I/O (io), C1 I/O (io), C2 A14-I/O (io), C3 A16-PGCK1-I/O (io), C4 A17-I/O (io), C5 I/O (io), C6 I/O (io), C7 GND (power), C8 I/O (io), C9 I/O (io), C10 I/O (io), C11 I/O (io), C12 GND (power), C13 I/O (io), C14 I/O (io), C15 M1 (hiz), C16 M2 (in), C17 I/O (io), C18 I/O (io), D1 I/O (io), D2 A13-I/O (io), D3 VCC (power), D4 GND (power), D5 I/O (io), D6 I/O (io), D7 I/O (io), D8 I/O (io), D9 GND (power), D10 VCC (power), D11 I/O (io), D12 I/O (io), D13 I/O (io), D14 I/O (io), D15 GND (power), D16 VCC (power), D17 I/O (io), D18 I/O (io), E1 I/O (io), E2 I/O (io), E3 I/O (io), E4 I/O (io), E15 I/O (io), E16 HDC-I/O (io), E17 LDC-I/O (io), E18 I/O (io), F1 I/O (io), F2 I/O (io), F3 A12-I/O (io), F4 I/O (io), F15 I/O (io), F16 I/O (io), F17 I/O (io), F18 I/O (io), G1 A10-I/O (io), G2 A11-I/O (io), G3 GND (power), G4 I/O (io), G15 I/O (io), G16 GND (power), G17 I/O (io), G18 I/O (io), H1 I/O (io), H2 I/O (io), H3 I/O (io), H4 I/O (io), H15 I/O (io), H16 I/O (io), H17 I/O (io), H18 I/O (io), J1 I/O (io), J2 A9-I/O (io), J3 A8-I/O (io), J4 VCC (power), J15 VCC (power), J16 ~{ERR}-~{INIT}-I/O (io), J17 I/O (io), J18 I/O (io), K1 I/O (io), K2 A6-I/O (io), K3 A7-I/O (io), K4 GND (power), K15 GND (power), K16 I/O (io), K17 I/O (io), K18 I/O (io), L1 I/O (io), L2 I/O (io), L3 I/O (io), L4 I/O (io), L15 I/O (io), L16 I/O (io), L17 I/O (io), L18 I/O (io), M1 A5-I/O (io), M2 A4-I/O (io), M3 GND (power), M4 I/O (io), M15 I/O (io), M16 GND (power), M17 I/O (io), M18 I/O (io), N1 I/O (io), N2 I/O (io), N3 A3-I/O (io), N4 I/O (io), N15 I/O (io), N16 I/O (io), N17 I/O (io), N18 I/O (io), P1 I/O (io), P2 I/O (io), P3 I/O (io), P4 I/O (io), P15 I/O (io), P16 I/O (io), P17 I/O (io), P18 I/O (io), R1 I/O (io), R2 I/O (io), R3 GND (power), R4 VCC (power), R5 I/O (io), R6 I/O (io), R7 I/O (io), R8 I/O (io), R9 GND (power), R10 VCC (power), R11 I/O (io), R12 I/O (io), R13 I/O (io), R14 I/O (io), R15 VCC (power), R16 GND (power), R17 I/O (io), R18 I/O (io), T1 I/O (io), T2 A2-CS1-I/O (io), T3 A0-~{WS}-I/O (io), T4 SGCK4-DOUT-I/O (io), T5 I/O (io), T6 I/O (io), T7 GND (power), T8 I/O (io), T9 D3-I/O (io), T10 I/O (io), T11 I/O (io), T12 GND (power), T13 I/O (io), T14 I/O (io), T15 D7-I/O (io), T16 SGCK3-I/O (io), T17 I/O (io), T18 I/O (io), U1 A1-PGCK4-I/O (io), U2 TD0 (io), U3 D0-DIN-I/O (io), U4 I/O (io), U5 I/O (io), U6 I/O (io), U7 I/O (io), U8 I/O (io), U9 ~{R}S-I/O (io), U10 D4-I/O (io), U11 I/O (io), U12 D5-I/O (io), U13 I/O (io), U14 I/O (io), U15 I/O (io), U16 PGCK3-I/O (io), U17 DONE (io), U18 I/O (io), V1 CCLK (io), V2 ~{RCLK}-~{BUSY}/RDY-I/O (io), V3 D1-I/O (io), V4 I/O (io), V5 I/O (io), V6 I/O (io), V7 D2-I/O (io), V8 I/O (io), V9 I/O (io), V10 I/O (io), V11 I/O (io), V12 ~{CS}0-I/O (io), V13 I/O (io), V14 I/O (io), V15 I/O (io), V16 I/O (io), V17 D6-I/O (io), V18 ~{PROG} (in)

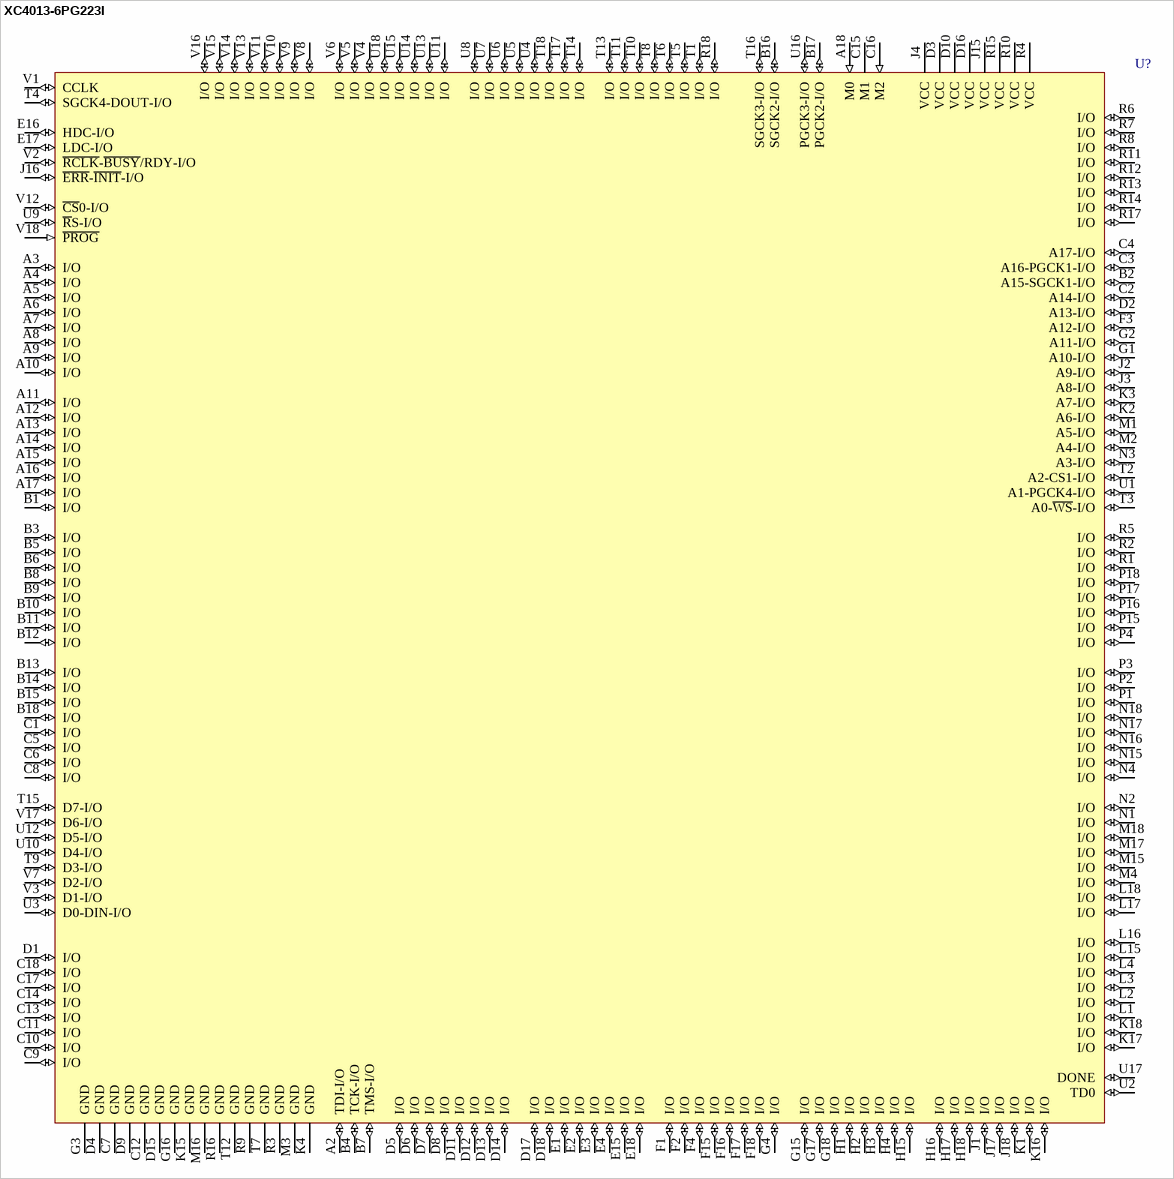
[diagram p174: symbol XC4013-6PG223I]